# Altium integrated library Altera MAX 7000B.IntLib: 128 symbols (part 1 of 9)
Pins are listed as number, name and electrical type; pins without a type are passive.

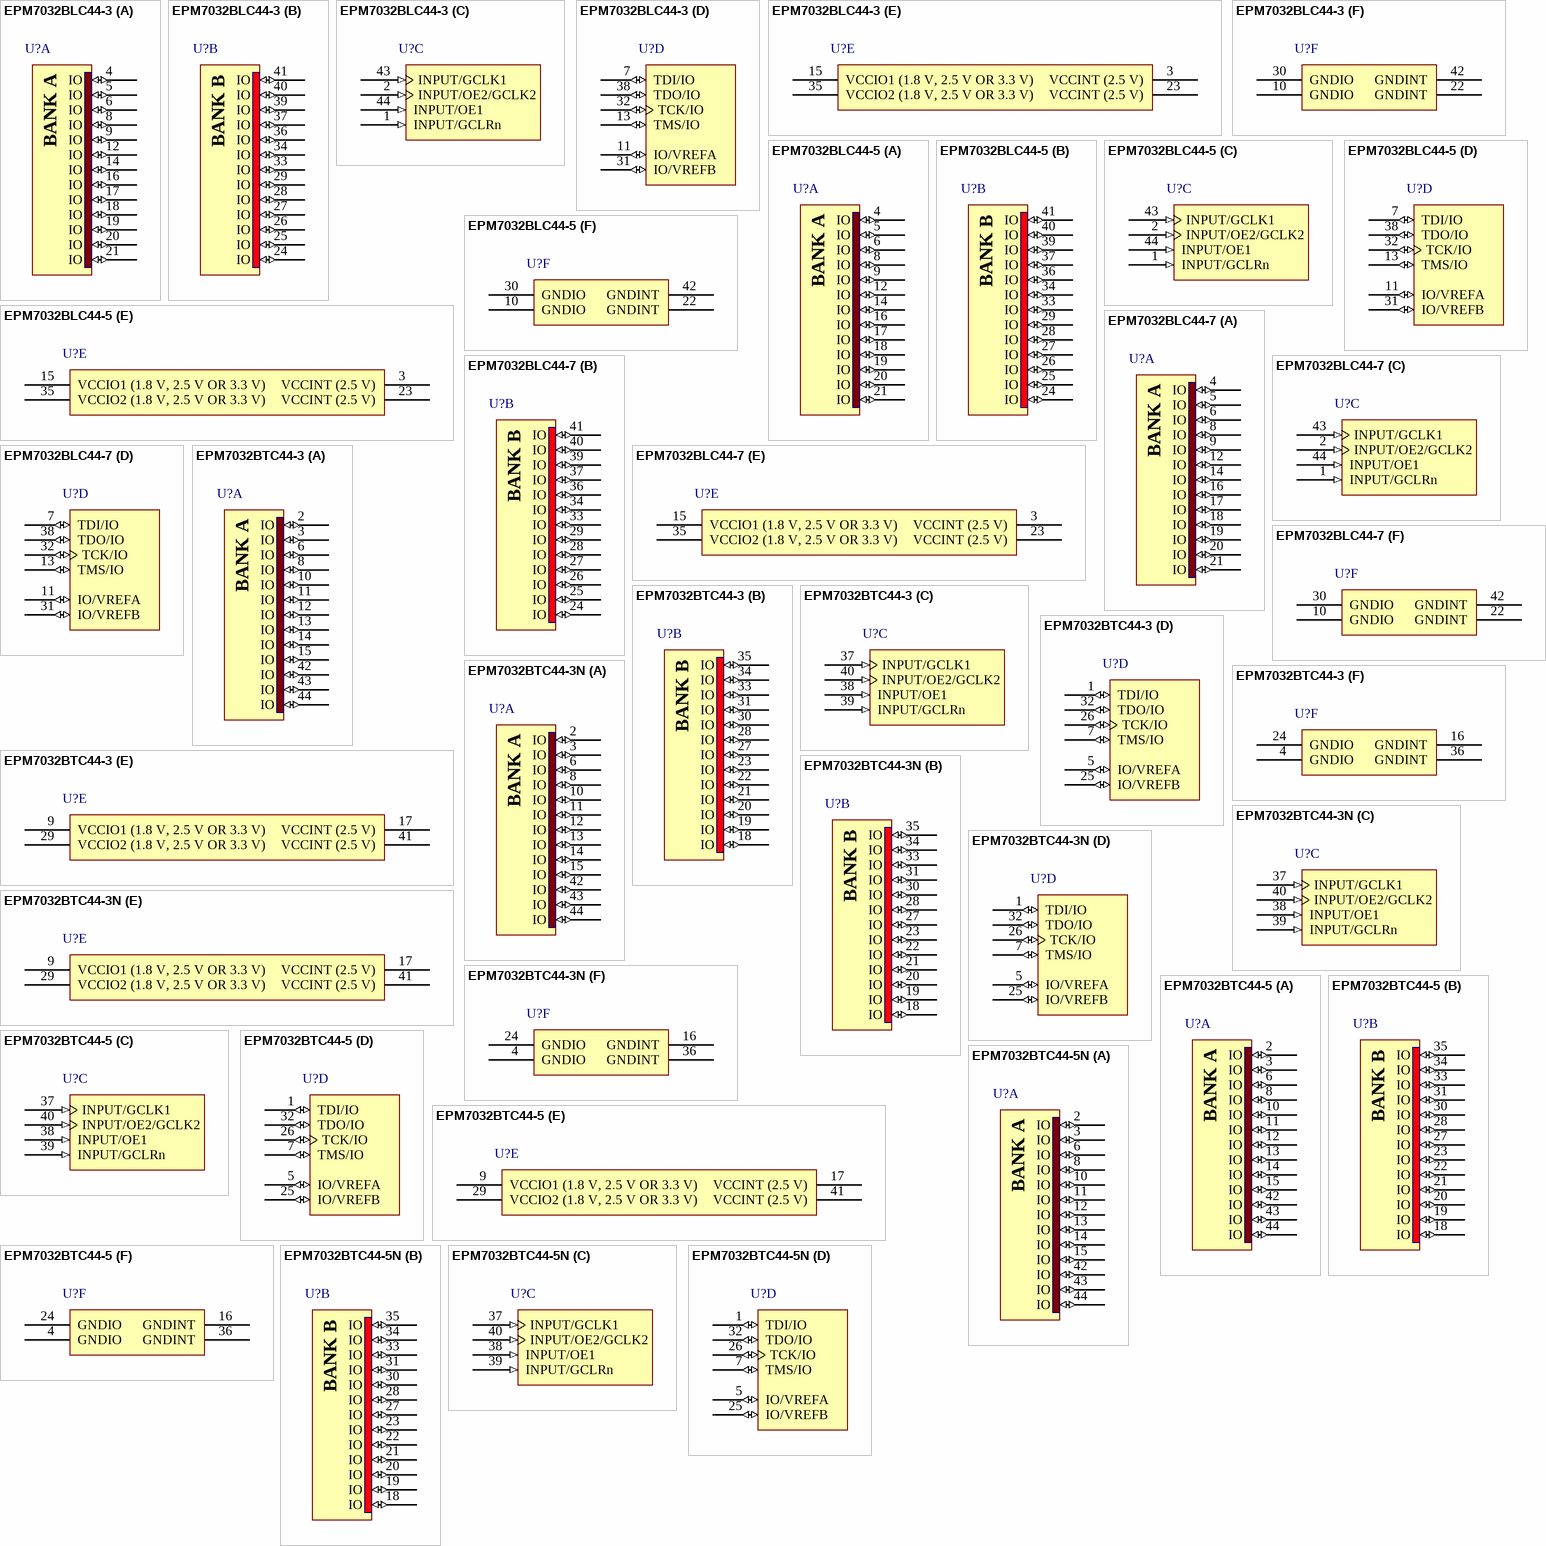
[diagram p0: symbols EPM7032BLC44-3 to EPM7032BTC44-5N]

## EPM7032BLC44-3
designator U?
Max 7000B 2.5V CPLD, 32 Macrocells, 44-Pin PLCC, Speed Grade 3, Commercial Grade; Published: 17-Sep-2003; LatestRevisionDate: 13-Apr-2006; LatestRevisionNote: IPC-7351 Footprint Added.; DatasheetVersion: ver3.5, Sep-2005; PackageVersion: ver14.3, Jul-2006; PackageReference: PLCC44; Publisher: Altium Limited; PackageDescription: 44-Pin Plastic J-Lead Chip Carrier (PLCC44); Code_JEDEC: MS-018-AC; Code_IPC: PLCC-44; ComponentLink1Description: Manufacturer Link; ComponentLink1URL: http://www.altera.com/products/devices/max7k/m7k-index.html; ComponentLink2Description: Datasheet; ComponentLink2URL: http://www.altera.com/literature/ds/m7000b.pdf; ComponentLink3Description: Packaging Specification; ComponentLink3URL: http://www.altera.com/literature/ds/dspkg.pdf
footprint PLCC44_N (Leaded Chip Carrier, 44-Leads, Body 16.6x16.6mm, Pitch 1.27mm, IPC Medium Density)
footprint PLCC44_L (Leaded Chip Carrier, 44-Leads, Body 16.6x16.6mm, Pitch 1.27mm, IPC High Density)
footprint PLCC44_M (Leaded Chip Carrier, 44-Leads, Body 16.6x16.6mm, Pitch 1.27mm, IPC Low Density)
3D model EPM7032B-PLCC44 (44-Pin Plastic J-Lead Chip Carrier (PLCC44))
signal-integrity model 7kb (MAX 7000B)
part A pins: 4 IO (io), 5 IO (io), 6 IO (io), 8 IO (io), 9 IO (io), 12 IO (io), 14 IO (io), 16 IO (io), 17 IO (io), 18 IO (io), 19 IO (io), 20 IO (io), 21 IO (io)
part B pins: 24 IO (io), 25 IO (io), 26 IO (io), 27 IO (io), 28 IO (io), 29 IO (io), 33 IO (io), 34 IO (io), 36 IO (io), 37 IO (io), 39 IO (io), 40 IO (io), 41 IO (io)
part C pins: 1 INPUT/GCLRn (in), 2 INPUT/OE2/GCLK2 (in), 43 INPUT/GCLK1 (in), 44 INPUT/OE1 (in)
part D pins: 7 TDI/IO (io), 11 IO/VREFA (io), 13 TMS/IO (io), 31 IO/VREFB (io), 32 TCK/IO (io), 38 TDO/IO (io)
part E pins: 3 VCCINT (2.5 V) (power), 15 VCCIO1 (1.8 V, 2.5 V OR 3.3 V) (power), 23 VCCINT (2.5 V) (power), 35 VCCIO2 (1.8 V, 2.5 V OR 3.3 V) (power)
part F pins: 10 GNDIO (power), 22 GNDINT (power), 30 GNDIO (power), 42 GNDINT (power)
part A text: BANK A
part B text: BANK B

## EPM7032BLC44-5
designator U?
Max 7000B 2.5V CPLD, 32 Macrocells, 44-Pin PLCC, Speed Grade 5, Commercial Grade; Published: 17-Sep-2003; LatestRevisionDate: 13-Apr-2006; LatestRevisionNote: IPC-7351 Footprint Added.; DatasheetVersion: ver3.5, Sep-2005; PackageVersion: ver14.3, Jul-2006; PackageReference: PLCC44; Publisher: Altium Limited; PackageDescription: 44-Pin Plastic J-Lead Chip Carrier (PLCC44); Code_JEDEC: MS-018-AC; Code_IPC: PLCC-44; ComponentLink1Description: Manufacturer Link; ComponentLink1URL: http://www.altera.com/products/devices/max7k/m7k-index.html; ComponentLink2Description: Datasheet; ComponentLink2URL: http://www.altera.com/literature/ds/m7000b.pdf; ComponentLink3Description: Packaging Specification; ComponentLink3URL: http://www.altera.com/literature/ds/dspkg.pdf
footprint PLCC44_N (Leaded Chip Carrier, 44-Leads, Body 16.6x16.6mm, Pitch 1.27mm, IPC Medium Density)
footprint PLCC44_L (Leaded Chip Carrier, 44-Leads, Body 16.6x16.6mm, Pitch 1.27mm, IPC High Density)
footprint PLCC44_M (Leaded Chip Carrier, 44-Leads, Body 16.6x16.6mm, Pitch 1.27mm, IPC Low Density)
3D model EPM7032B-PLCC44 (44-Pin Plastic J-Lead Chip Carrier (PLCC44))
signal-integrity model 7kb (MAX 7000B)
part A pins: 4 IO (io), 5 IO (io), 6 IO (io), 8 IO (io), 9 IO (io), 12 IO (io), 14 IO (io), 16 IO (io), 17 IO (io), 18 IO (io), 19 IO (io), 20 IO (io), 21 IO (io)
part B pins: 24 IO (io), 25 IO (io), 26 IO (io), 27 IO (io), 28 IO (io), 29 IO (io), 33 IO (io), 34 IO (io), 36 IO (io), 37 IO (io), 39 IO (io), 40 IO (io), 41 IO (io)
part C pins: 1 INPUT/GCLRn (in), 2 INPUT/OE2/GCLK2 (in), 43 INPUT/GCLK1 (in), 44 INPUT/OE1 (in)
part D pins: 7 TDI/IO (io), 11 IO/VREFA (io), 13 TMS/IO (io), 31 IO/VREFB (io), 32 TCK/IO (io), 38 TDO/IO (io)
part E pins: 3 VCCINT (2.5 V) (power), 15 VCCIO1 (1.8 V, 2.5 V OR 3.3 V) (power), 23 VCCINT (2.5 V) (power), 35 VCCIO2 (1.8 V, 2.5 V OR 3.3 V) (power)
part F pins: 10 GNDIO (power), 22 GNDINT (power), 30 GNDIO (power), 42 GNDINT (power)
part A text: BANK A
part B text: BANK B

## EPM7032BLC44-7
designator U?
Max 7000B 2.5V CPLD, 32 Macrocells, 44-Pin PLCC, Speed Grade 7, Commercial Grade; Published: 17-Sep-2003; LatestRevisionDate: 13-Apr-2006; LatestRevisionNote: IPC-7351 Footprint Added.; DatasheetVersion: ver3.5, Sep-2005; PackageVersion: ver14.3, Jul-2006; PackageReference: PLCC44; Publisher: Altium Limited; PackageDescription: 44-Pin Plastic J-Lead Chip Carrier (PLCC44); Code_JEDEC: MS-018-AC; Code_IPC: PLCC-44; ComponentLink1Description: Manufacturer Link; ComponentLink1URL: http://www.altera.com/products/devices/max7k/m7k-index.html; ComponentLink2Description: Datasheet; ComponentLink2URL: http://www.altera.com/literature/ds/m7000b.pdf; ComponentLink3Description: Packaging Specification; ComponentLink3URL: http://www.altera.com/literature/ds/dspkg.pdf
footprint PLCC44_N (Leaded Chip Carrier, 44-Leads, Body 16.6x16.6mm, Pitch 1.27mm, IPC Medium Density)
footprint PLCC44_L (Leaded Chip Carrier, 44-Leads, Body 16.6x16.6mm, Pitch 1.27mm, IPC High Density)
footprint PLCC44_M (Leaded Chip Carrier, 44-Leads, Body 16.6x16.6mm, Pitch 1.27mm, IPC Low Density)
3D model EPM7032B-PLCC44 (44-Pin Plastic J-Lead Chip Carrier (PLCC44))
signal-integrity model 7kb (MAX 7000B)
part A pins: 4 IO (io), 5 IO (io), 6 IO (io), 8 IO (io), 9 IO (io), 12 IO (io), 14 IO (io), 16 IO (io), 17 IO (io), 18 IO (io), 19 IO (io), 20 IO (io), 21 IO (io)
part B pins: 24 IO (io), 25 IO (io), 26 IO (io), 27 IO (io), 28 IO (io), 29 IO (io), 33 IO (io), 34 IO (io), 36 IO (io), 37 IO (io), 39 IO (io), 40 IO (io), 41 IO (io)
part C pins: 1 INPUT/GCLRn (in), 2 INPUT/OE2/GCLK2 (in), 43 INPUT/GCLK1 (in), 44 INPUT/OE1 (in)
part D pins: 7 TDI/IO (io), 11 IO/VREFA (io), 13 TMS/IO (io), 31 IO/VREFB (io), 32 TCK/IO (io), 38 TDO/IO (io)
part E pins: 3 VCCINT (2.5 V) (power), 15 VCCIO1 (1.8 V, 2.5 V OR 3.3 V) (power), 23 VCCINT (2.5 V) (power), 35 VCCIO2 (1.8 V, 2.5 V OR 3.3 V) (power)
part F pins: 10 GNDIO (power), 22 GNDINT (power), 30 GNDIO (power), 42 GNDINT (power)
part A text: BANK A
part B text: BANK B

## EPM7032BTC44-3
designator U?
Max 7000B 2.5V CPLD, 32 Macrocells, 44-Pin TQFP, Speed Grade 3, Commercial Grade; Published: 17-Sep-2003; LatestRevisionDate: 13-Apr-2006; LatestRevisionNote: IPC-7351 Footprint Added.; DatasheetVersion: ver3.5, Sep-2005; PackageVersion: ver14.3, Jul-2006; PackageReference: TQFP44; Publisher: Altium Limited; PackageDescription: 44-Pin Plastic Thin Quad Flat Pack (TFQP44); Code_JEDEC: MS-026-ACB; ComponentLink1Description: Manufacturer Link; ComponentLink1URL: http://www.altera.com/products/devices/max7k/m7k-index.html; ComponentLink2Description: Datasheet; ComponentLink2URL: http://www.altera.com/literature/ds/m7000b.pdf; ComponentLink3Description: Packaging Specification; ComponentLink3URL: http://www.altera.com/literature/ds/dspkg.pdf
footprint TQFP44_N (Thin QFP, 44-Leads, Body 10x10mm, Pitch 0.8mm, IPC Medium Density)
footprint TQFP44_L (Thin QFP, 44-Leads, Body 10x10mm, Pitch 0.8mm, IPC High Density)
footprint TQFP44_M (Thin QFP, 44-Leads, Body 10x10mm, Pitch 0.8mm, IPC Low Density)
3D model EPM7032B-TQFP44 (44-Pin Plastic Thin Quad Flat Pack (TFQP44))
signal-integrity model 7kb (MAX 7000B)
part A pins: 2 IO (io), 3 IO (io), 6 IO (io), 8 IO (io), 10 IO (io), 11 IO (io), 12 IO (io), 13 IO (io), 14 IO (io), 15 IO (io), 42 IO (io), 43 IO (io), 44 IO (io)
part B pins: 18 IO (io), 19 IO (io), 20 IO (io), 21 IO (io), 22 IO (io), 23 IO (io), 27 IO (io), 28 IO (io), 30 IO (io), 31 IO (io), 33 IO (io), 34 IO (io), 35 IO (io)
part C pins: 37 INPUT/GCLK1 (in), 38 INPUT/OE1 (in), 39 INPUT/GCLRn (in), 40 INPUT/OE2/GCLK2 (in)
part D pins: 1 TDI/IO (io), 5 IO/VREFA (io), 7 TMS/IO (io), 25 IO/VREFB (io), 26 TCK/IO (io), 32 TDO/IO (io)
part E pins: 9 VCCIO1 (1.8 V, 2.5 V OR 3.3 V) (power), 17 VCCINT (2.5 V) (power), 29 VCCIO2 (1.8 V, 2.5 V OR 3.3 V) (power), 41 VCCINT (2.5 V) (power)
part F pins: 4 GNDIO (power), 16 GNDINT (power), 24 GNDIO (power), 36 GNDINT (power)
part A text: BANK A
part B text: BANK B

## EPM7032BTC44-3N
designator U?
Max 7000B 2.5V CPLD, 32 Macrocells, 44-Pin TQFP, Speed Grade 3, Commercial Grade, Pb-Free; Published: 13-Apr-2006; DatasheetVersion: ver3.5, Sep-2005; PackageVersion: ver14.3, Jul-2006; PackageReference: TQFP44; Publisher: Altium Limited; PackageDescription: 44-Pin Plastic Thin Quad Flat Pack (TFQP44); Code_JEDEC: MS-026-ACB; ComponentLink1Description: Manufacturer Link; ComponentLink1URL: http://www.altera.com/products/devices/max7k/m7k-index.html; ComponentLink2Description: Datasheet; ComponentLink2URL: http://www.altera.com/literature/ds/m7000b.pdf; ComponentLink3Description: Packaging Specification; ComponentLink3URL: http://www.altera.com/literature/ds/dspkg.pdf
footprint TQFP44_N (Thin QFP, 44-Leads, Body 10x10mm, Pitch 0.8mm, IPC Medium Density)
footprint TQFP44_L (Thin QFP, 44-Leads, Body 10x10mm, Pitch 0.8mm, IPC High Density)
footprint TQFP44_M (Thin QFP, 44-Leads, Body 10x10mm, Pitch 0.8mm, IPC Low Density)
3D model EPM7032B-TQFP44 (44-Pin Plastic Thin Quad Flat Pack (TFQP44))
signal-integrity model 7kb (MAX 7000B)
part A pins: 2 IO (io), 3 IO (io), 6 IO (io), 8 IO (io), 10 IO (io), 11 IO (io), 12 IO (io), 13 IO (io), 14 IO (io), 15 IO (io), 42 IO (io), 43 IO (io), 44 IO (io)
part B pins: 18 IO (io), 19 IO (io), 20 IO (io), 21 IO (io), 22 IO (io), 23 IO (io), 27 IO (io), 28 IO (io), 30 IO (io), 31 IO (io), 33 IO (io), 34 IO (io), 35 IO (io)
part C pins: 37 INPUT/GCLK1 (in), 38 INPUT/OE1 (in), 39 INPUT/GCLRn (in), 40 INPUT/OE2/GCLK2 (in)
part D pins: 1 TDI/IO (io), 5 IO/VREFA (io), 7 TMS/IO (io), 25 IO/VREFB (io), 26 TCK/IO (io), 32 TDO/IO (io)
part E pins: 9 VCCIO1 (1.8 V, 2.5 V OR 3.3 V) (power), 17 VCCINT (2.5 V) (power), 29 VCCIO2 (1.8 V, 2.5 V OR 3.3 V) (power), 41 VCCINT (2.5 V) (power)
part F pins: 4 GNDIO (power), 16 GNDINT (power), 24 GNDIO (power), 36 GNDINT (power)
part A text: BANK A
part B text: BANK B

## EPM7032BTC44-5
designator U?
Max 7000B 2.5V CPLD, 32 Macrocells, 44-Pin TQFP, Speed Grade 5, Commercial Grade; Published: 17-Sep-2003; LatestRevisionDate: 13-Apr-2006; LatestRevisionNote: IPC-7351 Footprint Added.; DatasheetVersion: ver3.5, Sep-2005; PackageVersion: ver14.3, Jul-2006; PackageReference: TQFP44; Publisher: Altium Limited; PackageDescription: 44-Pin Plastic Thin Quad Flat Pack (TFQP44); Code_JEDEC: MS-026-ACB; ComponentLink1Description: Manufacturer Link; ComponentLink1URL: http://www.altera.com/products/devices/max7k/m7k-index.html; ComponentLink2Description: Datasheet; ComponentLink2URL: http://www.altera.com/literature/ds/m7000b.pdf; ComponentLink3Description: Packaging Specification; ComponentLink3URL: http://www.altera.com/literature/ds/dspkg.pdf
footprint TQFP44_N (Thin QFP, 44-Leads, Body 10x10mm, Pitch 0.8mm, IPC Medium Density)
footprint TQFP44_L (Thin QFP, 44-Leads, Body 10x10mm, Pitch 0.8mm, IPC High Density)
footprint TQFP44_M (Thin QFP, 44-Leads, Body 10x10mm, Pitch 0.8mm, IPC Low Density)
3D model EPM7032B-TQFP44 (44-Pin Plastic Thin Quad Flat Pack (TFQP44))
signal-integrity model 7kb (MAX 7000B)
part A pins: 2 IO (io), 3 IO (io), 6 IO (io), 8 IO (io), 10 IO (io), 11 IO (io), 12 IO (io), 13 IO (io), 14 IO (io), 15 IO (io), 42 IO (io), 43 IO (io), 44 IO (io)
part B pins: 18 IO (io), 19 IO (io), 20 IO (io), 21 IO (io), 22 IO (io), 23 IO (io), 27 IO (io), 28 IO (io), 30 IO (io), 31 IO (io), 33 IO (io), 34 IO (io), 35 IO (io)
part C pins: 37 INPUT/GCLK1 (in), 38 INPUT/OE1 (in), 39 INPUT/GCLRn (in), 40 INPUT/OE2/GCLK2 (in)
part D pins: 1 TDI/IO (io), 5 IO/VREFA (io), 7 TMS/IO (io), 25 IO/VREFB (io), 26 TCK/IO (io), 32 TDO/IO (io)
part E pins: 9 VCCIO1 (1.8 V, 2.5 V OR 3.3 V) (power), 17 VCCINT (2.5 V) (power), 29 VCCIO2 (1.8 V, 2.5 V OR 3.3 V) (power), 41 VCCINT (2.5 V) (power)
part F pins: 4 GNDIO (power), 16 GNDINT (power), 24 GNDIO (power), 36 GNDINT (power)
part A text: BANK A
part B text: BANK B

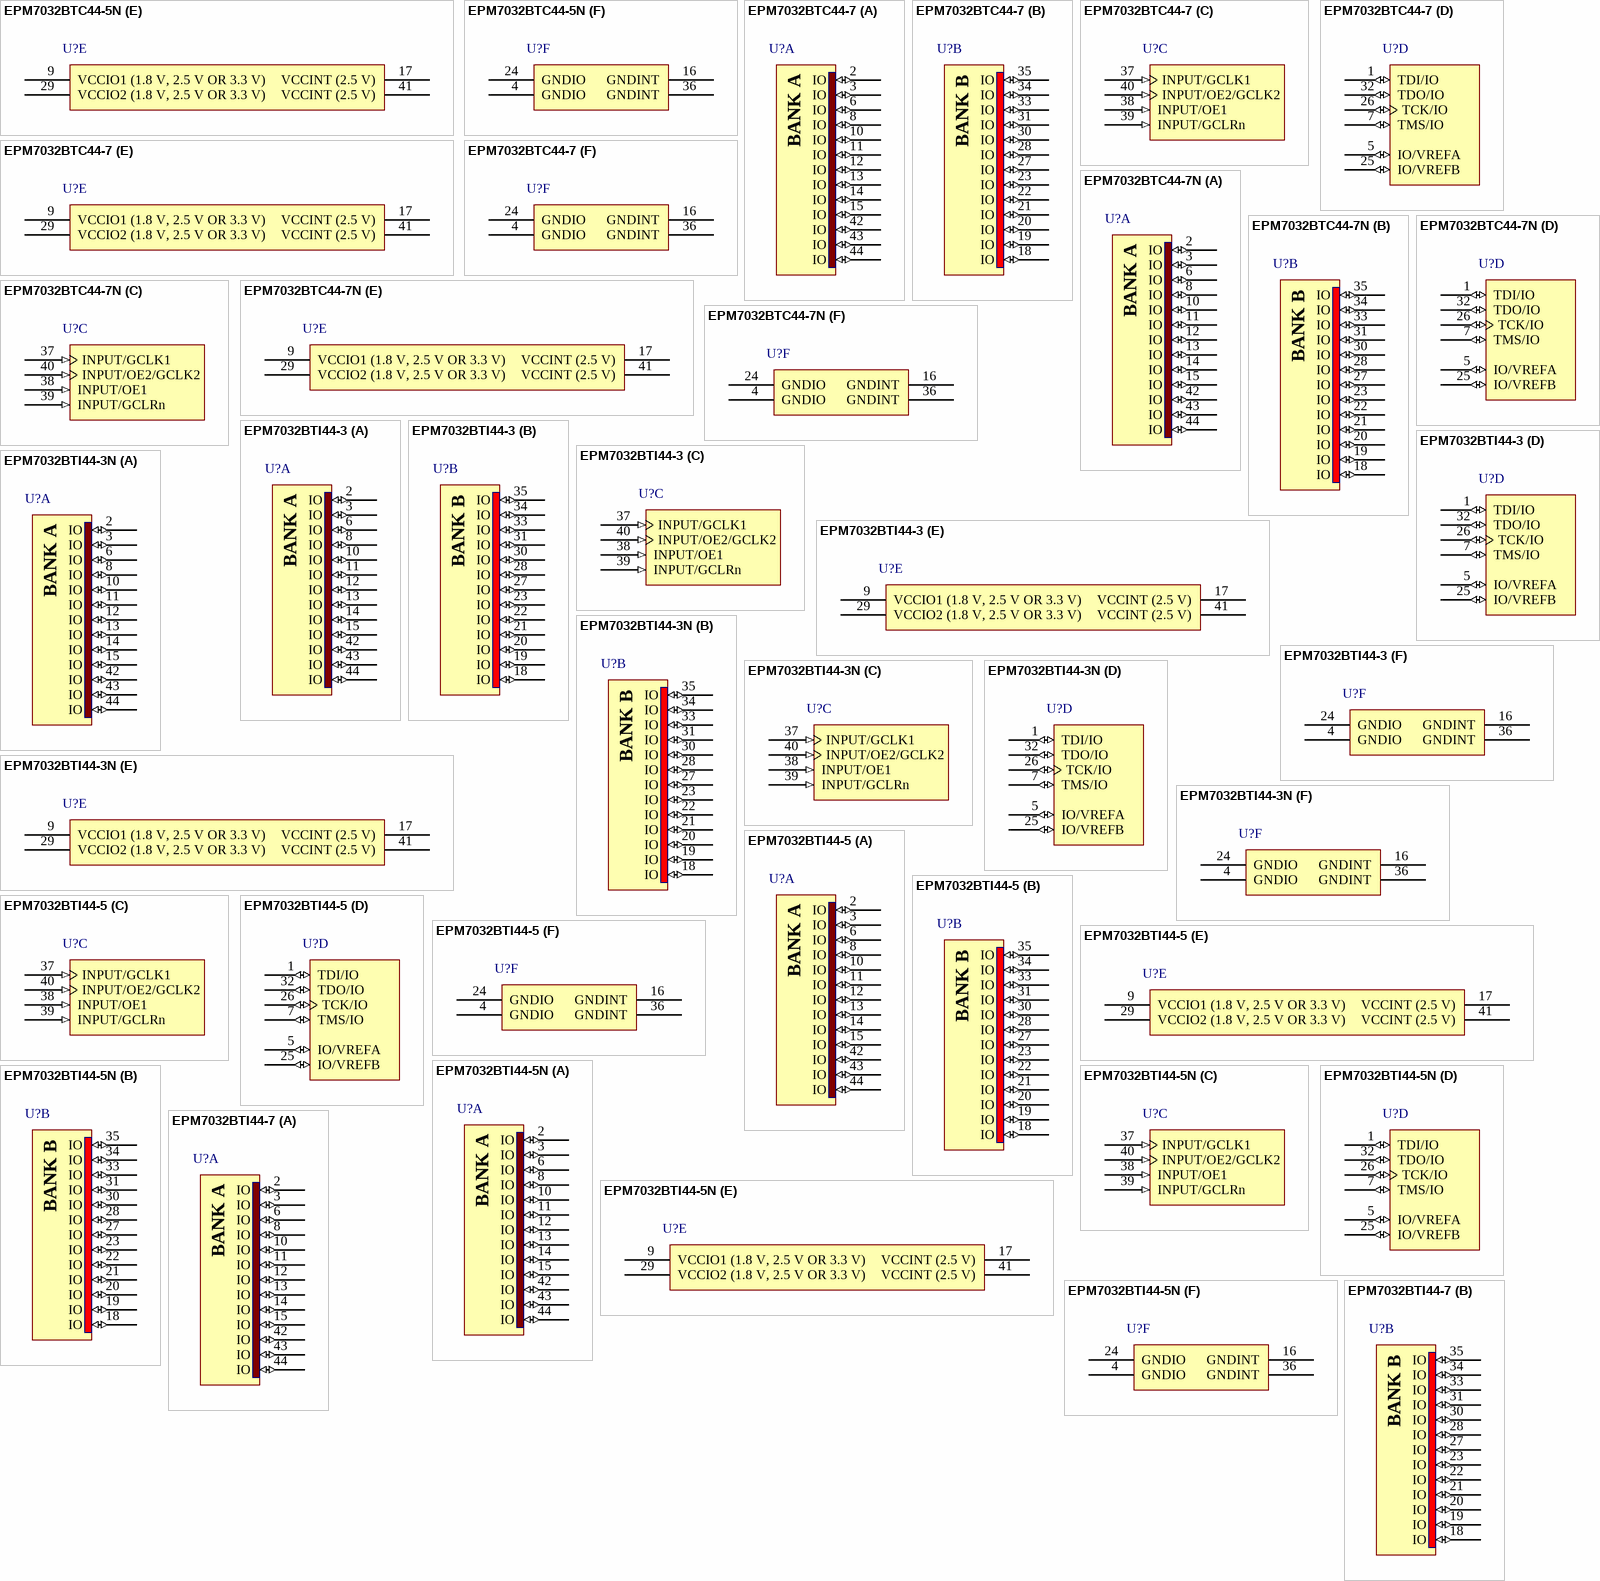
[diagram p1: symbols EPM7032BTC44-5N to EPM7032BTI44-7]

## EPM7032BTC44-5N
designator U?
Max 7000B 2.5V CPLD, 32 Macrocells, 44-Pin TQFP, Speed Grade 5, Commercial Grade, Pb-Free; Published: 13-Apr-2006; DatasheetVersion: ver3.5, Sep-2005; PackageVersion: ver14.3, Jul-2006; PackageReference: TQFP44; Publisher: Altium Limited; PackageDescription: 44-Pin Plastic Thin Quad Flat Pack (TFQP44); Code_JEDEC: MS-026-ACB; ComponentLink1Description: Manufacturer Link; ComponentLink1URL: http://www.altera.com/products/devices/max7k/m7k-index.html; ComponentLink2Description: Datasheet; ComponentLink2URL: http://www.altera.com/literature/ds/m7000b.pdf; ComponentLink3Description: Packaging Specification; ComponentLink3URL: http://www.altera.com/literature/ds/dspkg.pdf
footprint TQFP44_N (Thin QFP, 44-Leads, Body 10x10mm, Pitch 0.8mm, IPC Medium Density)
footprint TQFP44_L (Thin QFP, 44-Leads, Body 10x10mm, Pitch 0.8mm, IPC High Density)
footprint TQFP44_M (Thin QFP, 44-Leads, Body 10x10mm, Pitch 0.8mm, IPC Low Density)
3D model EPM7032B-TQFP44 (44-Pin Plastic Thin Quad Flat Pack (TFQP44))
signal-integrity model 7kb (MAX 7000B)
part A pins: 2 IO (io), 3 IO (io), 6 IO (io), 8 IO (io), 10 IO (io), 11 IO (io), 12 IO (io), 13 IO (io), 14 IO (io), 15 IO (io), 42 IO (io), 43 IO (io), 44 IO (io)
part B pins: 18 IO (io), 19 IO (io), 20 IO (io), 21 IO (io), 22 IO (io), 23 IO (io), 27 IO (io), 28 IO (io), 30 IO (io), 31 IO (io), 33 IO (io), 34 IO (io), 35 IO (io)
part C pins: 37 INPUT/GCLK1 (in), 38 INPUT/OE1 (in), 39 INPUT/GCLRn (in), 40 INPUT/OE2/GCLK2 (in)
part D pins: 1 TDI/IO (io), 5 IO/VREFA (io), 7 TMS/IO (io), 25 IO/VREFB (io), 26 TCK/IO (io), 32 TDO/IO (io)
part E pins: 9 VCCIO1 (1.8 V, 2.5 V OR 3.3 V) (power), 17 VCCINT (2.5 V) (power), 29 VCCIO2 (1.8 V, 2.5 V OR 3.3 V) (power), 41 VCCINT (2.5 V) (power)
part F pins: 4 GNDIO (power), 16 GNDINT (power), 24 GNDIO (power), 36 GNDINT (power)
part A text: BANK A
part B text: BANK B

## EPM7032BTC44-7
designator U?
Max 7000B 2.5V CPLD, 32 Macrocells, 44-Pin TQFP, Speed Grade 7, Commercial Grade; Published: 17-Sep-2003; LatestRevisionDate: 13-Apr-2006; LatestRevisionNote: IPC-7351 Footprint Added.; DatasheetVersion: ver3.5, Sep-2005; PackageVersion: ver14.3, Jul-2006; PackageReference: TQFP44; Publisher: Altium Limited; PackageDescription: 44-Pin Plastic Thin Quad Flat Pack (TFQP44); Code_JEDEC: MS-026-ACB; ComponentLink1Description: Manufacturer Link; ComponentLink1URL: http://www.altera.com/products/devices/max7k/m7k-index.html; ComponentLink2Description: Datasheet; ComponentLink2URL: http://www.altera.com/literature/ds/m7000b.pdf; ComponentLink3Description: Packaging Specification; ComponentLink3URL: http://www.altera.com/literature/ds/dspkg.pdf
footprint TQFP44_N (Thin QFP, 44-Leads, Body 10x10mm, Pitch 0.8mm, IPC Medium Density)
footprint TQFP44_L (Thin QFP, 44-Leads, Body 10x10mm, Pitch 0.8mm, IPC High Density)
footprint TQFP44_M (Thin QFP, 44-Leads, Body 10x10mm, Pitch 0.8mm, IPC Low Density)
3D model EPM7032B-TQFP44 (44-Pin Plastic Thin Quad Flat Pack (TFQP44))
signal-integrity model 7kb (MAX 7000B)
part A pins: 2 IO (io), 3 IO (io), 6 IO (io), 8 IO (io), 10 IO (io), 11 IO (io), 12 IO (io), 13 IO (io), 14 IO (io), 15 IO (io), 42 IO (io), 43 IO (io), 44 IO (io)
part B pins: 18 IO (io), 19 IO (io), 20 IO (io), 21 IO (io), 22 IO (io), 23 IO (io), 27 IO (io), 28 IO (io), 30 IO (io), 31 IO (io), 33 IO (io), 34 IO (io), 35 IO (io)
part C pins: 37 INPUT/GCLK1 (in), 38 INPUT/OE1 (in), 39 INPUT/GCLRn (in), 40 INPUT/OE2/GCLK2 (in)
part D pins: 1 TDI/IO (io), 5 IO/VREFA (io), 7 TMS/IO (io), 25 IO/VREFB (io), 26 TCK/IO (io), 32 TDO/IO (io)
part E pins: 9 VCCIO1 (1.8 V, 2.5 V OR 3.3 V) (power), 17 VCCINT (2.5 V) (power), 29 VCCIO2 (1.8 V, 2.5 V OR 3.3 V) (power), 41 VCCINT (2.5 V) (power)
part F pins: 4 GNDIO (power), 16 GNDINT (power), 24 GNDIO (power), 36 GNDINT (power)
part A text: BANK A
part B text: BANK B

## EPM7032BTC44-7N
designator U?
Max 7000B 2.5V CPLD, 32 Macrocells, 44-Pin TQFP, Speed Grade 7, Commercial Grade, Pb-Free; Published: 13-Apr-2006; DatasheetVersion: ver3.5, Sep-2005; PackageVersion: ver14.3, Jul-2006; PackageReference: TQFP44; Publisher: Altium Limited; PackageDescription: 44-Pin Plastic Thin Quad Flat Pack (TFQP44); Code_JEDEC: MS-026-ACB; ComponentLink1Description: Manufacturer Link; ComponentLink1URL: http://www.altera.com/products/devices/max7k/m7k-index.html; ComponentLink2Description: Datasheet; ComponentLink2URL: http://www.altera.com/literature/ds/m7000b.pdf; ComponentLink3Description: Packaging Specification; ComponentLink3URL: http://www.altera.com/literature/ds/dspkg.pdf
footprint TQFP44_N (Thin QFP, 44-Leads, Body 10x10mm, Pitch 0.8mm, IPC Medium Density)
footprint TQFP44_L (Thin QFP, 44-Leads, Body 10x10mm, Pitch 0.8mm, IPC High Density)
footprint TQFP44_M (Thin QFP, 44-Leads, Body 10x10mm, Pitch 0.8mm, IPC Low Density)
3D model EPM7032B-TQFP44 (44-Pin Plastic Thin Quad Flat Pack (TFQP44))
signal-integrity model 7kb (MAX 7000B)
part A pins: 2 IO (io), 3 IO (io), 6 IO (io), 8 IO (io), 10 IO (io), 11 IO (io), 12 IO (io), 13 IO (io), 14 IO (io), 15 IO (io), 42 IO (io), 43 IO (io), 44 IO (io)
part B pins: 18 IO (io), 19 IO (io), 20 IO (io), 21 IO (io), 22 IO (io), 23 IO (io), 27 IO (io), 28 IO (io), 30 IO (io), 31 IO (io), 33 IO (io), 34 IO (io), 35 IO (io)
part C pins: 37 INPUT/GCLK1 (in), 38 INPUT/OE1 (in), 39 INPUT/GCLRn (in), 40 INPUT/OE2/GCLK2 (in)
part D pins: 1 TDI/IO (io), 5 IO/VREFA (io), 7 TMS/IO (io), 25 IO/VREFB (io), 26 TCK/IO (io), 32 TDO/IO (io)
part E pins: 9 VCCIO1 (1.8 V, 2.5 V OR 3.3 V) (power), 17 VCCINT (2.5 V) (power), 29 VCCIO2 (1.8 V, 2.5 V OR 3.3 V) (power), 41 VCCINT (2.5 V) (power)
part F pins: 4 GNDIO (power), 16 GNDINT (power), 24 GNDIO (power), 36 GNDINT (power)
part A text: BANK A
part B text: BANK B

## EPM7032BTI44-3
designator U?
Max 7000B 2.5V CPLD, 32 Macrocells, 44-Pin TQFP, Speed Grade 3, Industrial Grade; Published: 17-Sep-2003; LatestRevisionDate: 13-Apr-2006; LatestRevisionNote: IPC-7351 Footprint Added.; DatasheetVersion: ver3.5, Sep-2005; PackageVersion: ver14.3, Jul-2006; PackageReference: TQFP44; Publisher: Altium Limited; PackageDescription: 44-Pin Plastic Thin Quad Flat Pack (TFQP44); Code_JEDEC: MS-026-ACB; ComponentLink1Description: Manufacturer Link; ComponentLink1URL: http://www.altera.com/products/devices/max7k/m7k-index.html; ComponentLink2Description: Datasheet; ComponentLink2URL: http://www.altera.com/literature/ds/m7000b.pdf; ComponentLink3Description: Packaging Specification; ComponentLink3URL: http://www.altera.com/literature/ds/dspkg.pdf
footprint TQFP44_N (Thin QFP, 44-Leads, Body 10x10mm, Pitch 0.8mm, IPC Medium Density)
footprint TQFP44_L (Thin QFP, 44-Leads, Body 10x10mm, Pitch 0.8mm, IPC High Density)
footprint TQFP44_M (Thin QFP, 44-Leads, Body 10x10mm, Pitch 0.8mm, IPC Low Density)
3D model EPM7032B-TQFP44 (44-Pin Plastic Thin Quad Flat Pack (TFQP44))
signal-integrity model 7kb (MAX 7000B)
part A pins: 2 IO (io), 3 IO (io), 6 IO (io), 8 IO (io), 10 IO (io), 11 IO (io), 12 IO (io), 13 IO (io), 14 IO (io), 15 IO (io), 42 IO (io), 43 IO (io), 44 IO (io)
part B pins: 18 IO (io), 19 IO (io), 20 IO (io), 21 IO (io), 22 IO (io), 23 IO (io), 27 IO (io), 28 IO (io), 30 IO (io), 31 IO (io), 33 IO (io), 34 IO (io), 35 IO (io)
part C pins: 37 INPUT/GCLK1 (in), 38 INPUT/OE1 (in), 39 INPUT/GCLRn (in), 40 INPUT/OE2/GCLK2 (in)
part D pins: 1 TDI/IO (io), 5 IO/VREFA (io), 7 TMS/IO (io), 25 IO/VREFB (io), 26 TCK/IO (io), 32 TDO/IO (io)
part E pins: 9 VCCIO1 (1.8 V, 2.5 V OR 3.3 V) (power), 17 VCCINT (2.5 V) (power), 29 VCCIO2 (1.8 V, 2.5 V OR 3.3 V) (power), 41 VCCINT (2.5 V) (power)
part F pins: 4 GNDIO (power), 16 GNDINT (power), 24 GNDIO (power), 36 GNDINT (power)
part A text: BANK A
part B text: BANK B

## EPM7032BTI44-3N
designator U?
Max 7000B 2.5V CPLD, 32 Macrocells, 44-Pin TQFP, Speed Grade 3, Industrial Grade, Pb-Free; Published: 13-Apr-2006; DatasheetVersion: ver3.5, Sep-2005; PackageVersion: ver14.3, Jul-2006; PackageReference: TQFP44; Publisher: Altium Limited; PackageDescription: 44-Pin Plastic Thin Quad Flat Pack (TFQP44); Code_JEDEC: MS-026-ACB; ComponentLink1Description: Manufacturer Link; ComponentLink1URL: http://www.altera.com/products/devices/max7k/m7k-index.html; ComponentLink2Description: Datasheet; ComponentLink2URL: http://www.altera.com/literature/ds/m7000b.pdf; ComponentLink3Description: Packaging Specification; ComponentLink3URL: http://www.altera.com/literature/ds/dspkg.pdf
footprint TQFP44_N (Thin QFP, 44-Leads, Body 10x10mm, Pitch 0.8mm, IPC Medium Density)
footprint TQFP44_L (Thin QFP, 44-Leads, Body 10x10mm, Pitch 0.8mm, IPC High Density)
footprint TQFP44_M (Thin QFP, 44-Leads, Body 10x10mm, Pitch 0.8mm, IPC Low Density)
3D model EPM7032B-TQFP44 (44-Pin Plastic Thin Quad Flat Pack (TFQP44))
signal-integrity model 7kb (MAX 7000B)
part A pins: 2 IO (io), 3 IO (io), 6 IO (io), 8 IO (io), 10 IO (io), 11 IO (io), 12 IO (io), 13 IO (io), 14 IO (io), 15 IO (io), 42 IO (io), 43 IO (io), 44 IO (io)
part B pins: 18 IO (io), 19 IO (io), 20 IO (io), 21 IO (io), 22 IO (io), 23 IO (io), 27 IO (io), 28 IO (io), 30 IO (io), 31 IO (io), 33 IO (io), 34 IO (io), 35 IO (io)
part C pins: 37 INPUT/GCLK1 (in), 38 INPUT/OE1 (in), 39 INPUT/GCLRn (in), 40 INPUT/OE2/GCLK2 (in)
part D pins: 1 TDI/IO (io), 5 IO/VREFA (io), 7 TMS/IO (io), 25 IO/VREFB (io), 26 TCK/IO (io), 32 TDO/IO (io)
part E pins: 9 VCCIO1 (1.8 V, 2.5 V OR 3.3 V) (power), 17 VCCINT (2.5 V) (power), 29 VCCIO2 (1.8 V, 2.5 V OR 3.3 V) (power), 41 VCCINT (2.5 V) (power)
part F pins: 4 GNDIO (power), 16 GNDINT (power), 24 GNDIO (power), 36 GNDINT (power)
part A text: BANK A
part B text: BANK B

## EPM7032BTI44-5
designator U?
Max 7000B 2.5V CPLD, 32 Macrocells, 44-Pin TQFP, Speed Grade 5, Industrial Grade; Published: 17-Sep-2003; LatestRevisionDate: 13-Apr-2006; LatestRevisionNote: IPC-7351 Footprint Added.; DatasheetVersion: ver3.5, Sep-2005; PackageVersion: ver14.3, Jul-2006; PackageReference: TQFP44; Publisher: Altium Limited; PackageDescription: 44-Pin Plastic Thin Quad Flat Pack (TFQP44); Code_JEDEC: MS-026-ACB; ComponentLink1Description: Manufacturer Link; ComponentLink1URL: http://www.altera.com/products/devices/max7k/m7k-index.html; ComponentLink2Description: Datasheet; ComponentLink2URL: http://www.altera.com/literature/ds/m7000b.pdf; ComponentLink3Description: Packaging Specification; ComponentLink3URL: http://www.altera.com/literature/ds/dspkg.pdf
footprint TQFP44_N (Thin QFP, 44-Leads, Body 10x10mm, Pitch 0.8mm, IPC Medium Density)
footprint TQFP44_L (Thin QFP, 44-Leads, Body 10x10mm, Pitch 0.8mm, IPC High Density)
footprint TQFP44_M (Thin QFP, 44-Leads, Body 10x10mm, Pitch 0.8mm, IPC Low Density)
3D model EPM7032B-TQFP44 (44-Pin Plastic Thin Quad Flat Pack (TFQP44))
signal-integrity model 7kb (MAX 7000B)
part A pins: 2 IO (io), 3 IO (io), 6 IO (io), 8 IO (io), 10 IO (io), 11 IO (io), 12 IO (io), 13 IO (io), 14 IO (io), 15 IO (io), 42 IO (io), 43 IO (io), 44 IO (io)
part B pins: 18 IO (io), 19 IO (io), 20 IO (io), 21 IO (io), 22 IO (io), 23 IO (io), 27 IO (io), 28 IO (io), 30 IO (io), 31 IO (io), 33 IO (io), 34 IO (io), 35 IO (io)
part C pins: 37 INPUT/GCLK1 (in), 38 INPUT/OE1 (in), 39 INPUT/GCLRn (in), 40 INPUT/OE2/GCLK2 (in)
part D pins: 1 TDI/IO (io), 5 IO/VREFA (io), 7 TMS/IO (io), 25 IO/VREFB (io), 26 TCK/IO (io), 32 TDO/IO (io)
part E pins: 9 VCCIO1 (1.8 V, 2.5 V OR 3.3 V) (power), 17 VCCINT (2.5 V) (power), 29 VCCIO2 (1.8 V, 2.5 V OR 3.3 V) (power), 41 VCCINT (2.5 V) (power)
part F pins: 4 GNDIO (power), 16 GNDINT (power), 24 GNDIO (power), 36 GNDINT (power)
part A text: BANK A
part B text: BANK B

## EPM7032BTI44-5N
designator U?
Max 7000B 2.5V CPLD, 32 Macrocells, 44-Pin TQFP, Speed Grade 5, Industrial Grade, Pb-Free; Published: 13-Apr-2006; DatasheetVersion: ver3.5, Sep-2005; PackageVersion: ver14.3, Jul-2006; PackageReference: TQFP44; Publisher: Altium Limited; PackageDescription: 44-Pin Plastic Thin Quad Flat Pack (TFQP44); Code_JEDEC: MS-026-ACB; ComponentLink1Description: Manufacturer Link; ComponentLink1URL: http://www.altera.com/products/devices/max7k/m7k-index.html; ComponentLink2Description: Datasheet; ComponentLink2URL: http://www.altera.com/literature/ds/m7000b.pdf; ComponentLink3Description: Packaging Specification; ComponentLink3URL: http://www.altera.com/literature/ds/dspkg.pdf
footprint TQFP44_N (Thin QFP, 44-Leads, Body 10x10mm, Pitch 0.8mm, IPC Medium Density)
footprint TQFP44_L (Thin QFP, 44-Leads, Body 10x10mm, Pitch 0.8mm, IPC High Density)
footprint TQFP44_M (Thin QFP, 44-Leads, Body 10x10mm, Pitch 0.8mm, IPC Low Density)
3D model EPM7032B-TQFP44 (44-Pin Plastic Thin Quad Flat Pack (TFQP44))
signal-integrity model 7kb (MAX 7000B)
part A pins: 2 IO (io), 3 IO (io), 6 IO (io), 8 IO (io), 10 IO (io), 11 IO (io), 12 IO (io), 13 IO (io), 14 IO (io), 15 IO (io), 42 IO (io), 43 IO (io), 44 IO (io)
part B pins: 18 IO (io), 19 IO (io), 20 IO (io), 21 IO (io), 22 IO (io), 23 IO (io), 27 IO (io), 28 IO (io), 30 IO (io), 31 IO (io), 33 IO (io), 34 IO (io), 35 IO (io)
part C pins: 37 INPUT/GCLK1 (in), 38 INPUT/OE1 (in), 39 INPUT/GCLRn (in), 40 INPUT/OE2/GCLK2 (in)
part D pins: 1 TDI/IO (io), 5 IO/VREFA (io), 7 TMS/IO (io), 25 IO/VREFB (io), 26 TCK/IO (io), 32 TDO/IO (io)
part E pins: 9 VCCIO1 (1.8 V, 2.5 V OR 3.3 V) (power), 17 VCCINT (2.5 V) (power), 29 VCCIO2 (1.8 V, 2.5 V OR 3.3 V) (power), 41 VCCINT (2.5 V) (power)
part F pins: 4 GNDIO (power), 16 GNDINT (power), 24 GNDIO (power), 36 GNDINT (power)
part A text: BANK A
part B text: BANK B

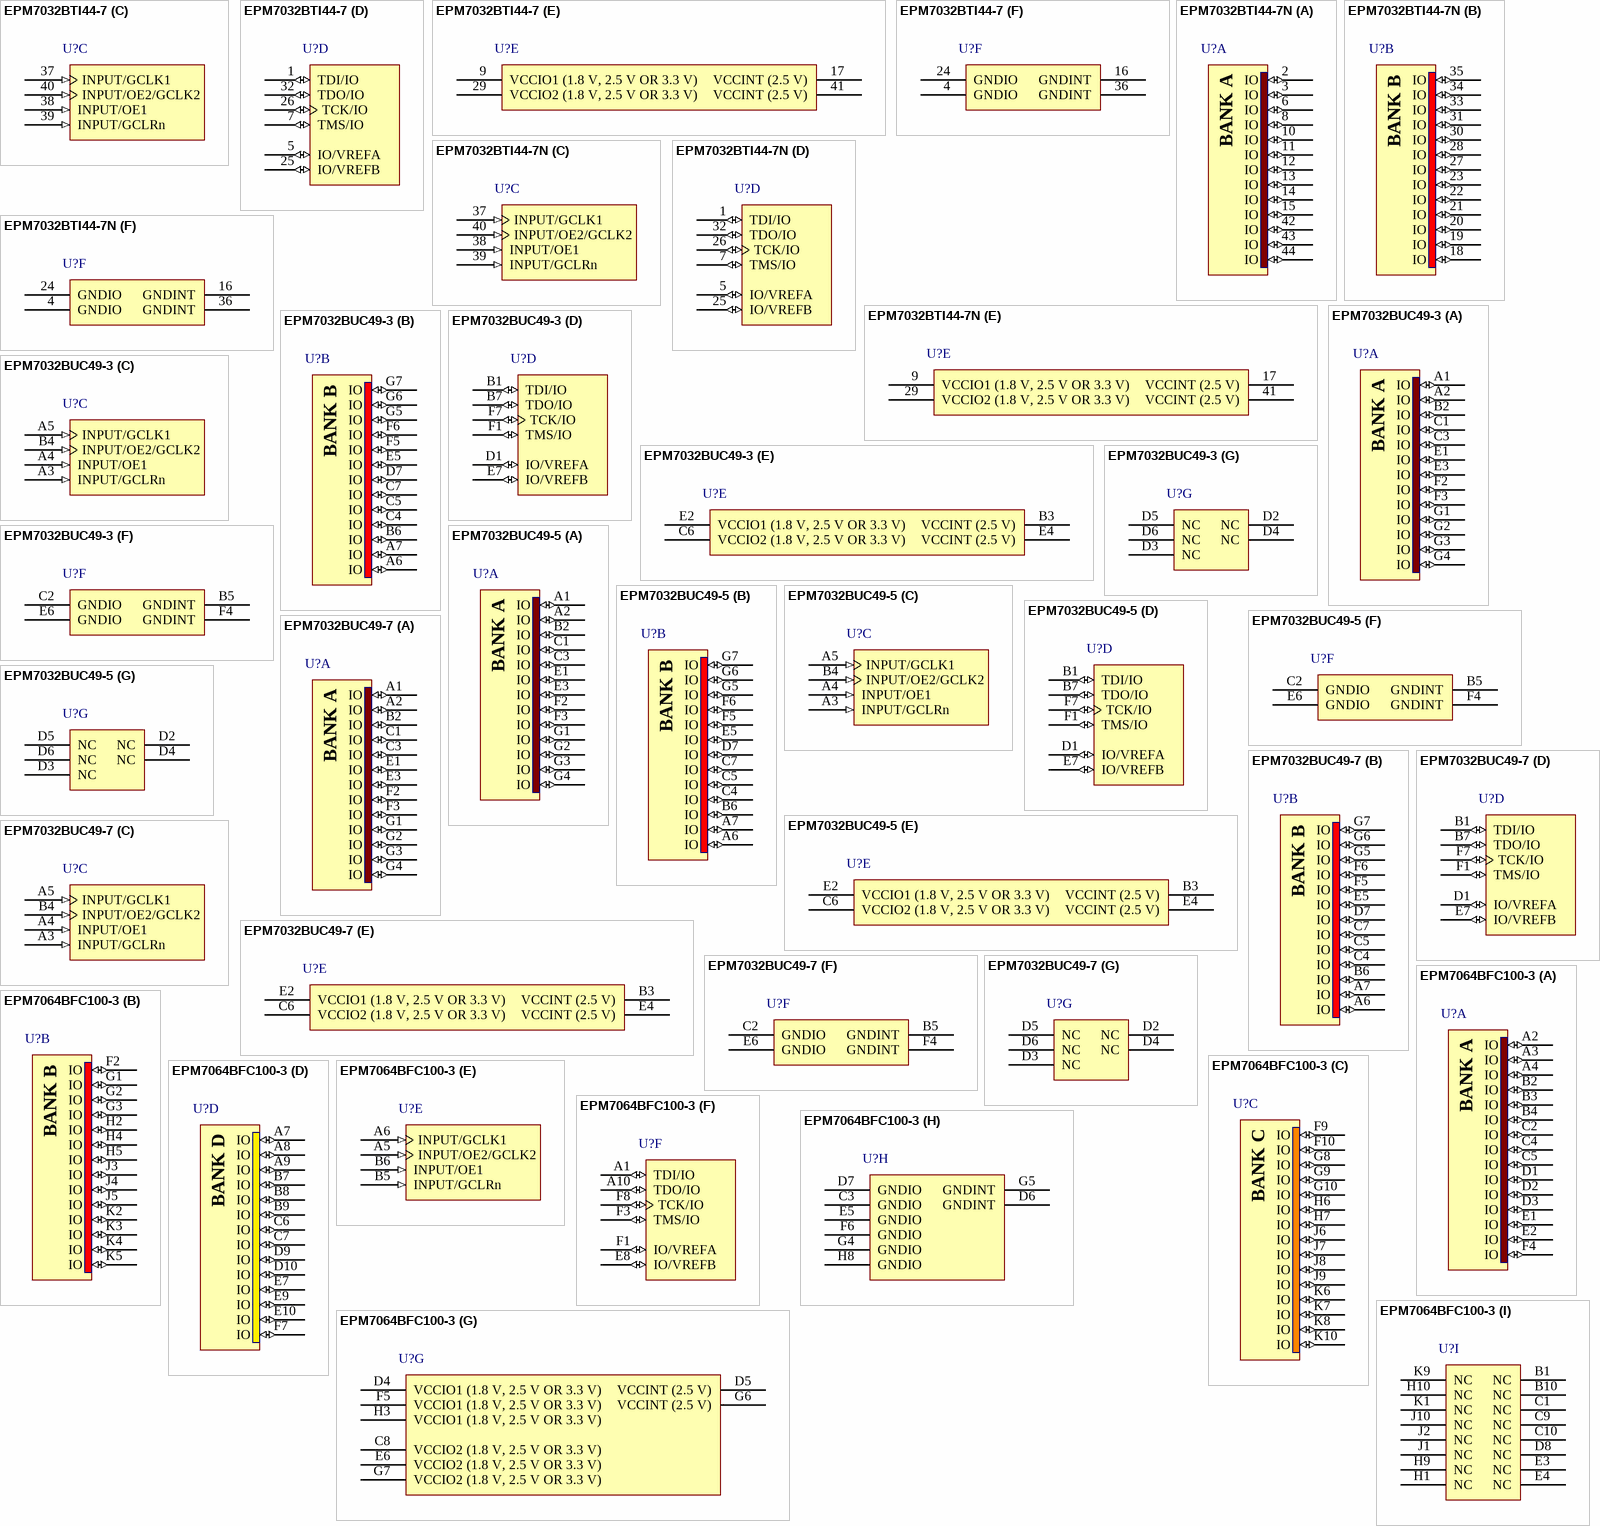
[diagram p2: symbols EPM7032BTI44-7 to EPM7064BFC100-3]

## EPM7032BTI44-7
designator U?
Max 7000B 2.5V CPLD, 32 Macrocells, 44-Pin TQFP, Speed Grade 7, Industrial Grade; Published: 17-Sep-2003; LatestRevisionDate: 13-Apr-2006; LatestRevisionNote: IPC-7351 Footprint Added.; DatasheetVersion: ver3.5, Sep-2005; PackageVersion: ver14.3, Jul-2006; PackageReference: TQFP44; Publisher: Altium Limited; PackageDescription: 44-Pin Plastic Thin Quad Flat Pack (TFQP44); Code_JEDEC: MS-026-ACB; ComponentLink1Description: Manufacturer Link; ComponentLink1URL: http://www.altera.com/products/devices/max7k/m7k-index.html; ComponentLink2Description: Datasheet; ComponentLink2URL: http://www.altera.com/literature/ds/m7000b.pdf; ComponentLink3Description: Packaging Specification; ComponentLink3URL: http://www.altera.com/literature/ds/dspkg.pdf
footprint TQFP44_N (Thin QFP, 44-Leads, Body 10x10mm, Pitch 0.8mm, IPC Medium Density)
footprint TQFP44_L (Thin QFP, 44-Leads, Body 10x10mm, Pitch 0.8mm, IPC High Density)
footprint TQFP44_M (Thin QFP, 44-Leads, Body 10x10mm, Pitch 0.8mm, IPC Low Density)
3D model EPM7032B-TQFP44 (44-Pin Plastic Thin Quad Flat Pack (TFQP44))
signal-integrity model 7kb (MAX 7000B)
part A pins: 2 IO (io), 3 IO (io), 6 IO (io), 8 IO (io), 10 IO (io), 11 IO (io), 12 IO (io), 13 IO (io), 14 IO (io), 15 IO (io), 42 IO (io), 43 IO (io), 44 IO (io)
part B pins: 18 IO (io), 19 IO (io), 20 IO (io), 21 IO (io), 22 IO (io), 23 IO (io), 27 IO (io), 28 IO (io), 30 IO (io), 31 IO (io), 33 IO (io), 34 IO (io), 35 IO (io)
part C pins: 37 INPUT/GCLK1 (in), 38 INPUT/OE1 (in), 39 INPUT/GCLRn (in), 40 INPUT/OE2/GCLK2 (in)
part D pins: 1 TDI/IO (io), 5 IO/VREFA (io), 7 TMS/IO (io), 25 IO/VREFB (io), 26 TCK/IO (io), 32 TDO/IO (io)
part E pins: 9 VCCIO1 (1.8 V, 2.5 V OR 3.3 V) (power), 17 VCCINT (2.5 V) (power), 29 VCCIO2 (1.8 V, 2.5 V OR 3.3 V) (power), 41 VCCINT (2.5 V) (power)
part F pins: 4 GNDIO (power), 16 GNDINT (power), 24 GNDIO (power), 36 GNDINT (power)
part A text: BANK A
part B text: BANK B

## EPM7032BTI44-7N
designator U?
Max 7000B 2.5V CPLD, 32 Macrocells, 44-Pin TQFP, Speed Grade 7, Industrial Grade, Pb-Free; Published: 13-Apr-2006; DatasheetVersion: ver3.5, Sep-2005; PackageVersion: ver14.3, Jul-2006; PackageReference: TQFP44; Publisher: Altium Limited; PackageDescription: 44-Pin Plastic Thin Quad Flat Pack (TFQP44); Code_JEDEC: MS-026-ACB; ComponentLink1Description: Manufacturer Link; ComponentLink1URL: http://www.altera.com/products/devices/max7k/m7k-index.html; ComponentLink2Description: Datasheet; ComponentLink2URL: http://www.altera.com/literature/ds/m7000b.pdf; ComponentLink3Description: Packaging Specification; ComponentLink3URL: http://www.altera.com/literature/ds/dspkg.pdf
footprint TQFP44_N (Thin QFP, 44-Leads, Body 10x10mm, Pitch 0.8mm, IPC Medium Density)
footprint TQFP44_L (Thin QFP, 44-Leads, Body 10x10mm, Pitch 0.8mm, IPC High Density)
footprint TQFP44_M (Thin QFP, 44-Leads, Body 10x10mm, Pitch 0.8mm, IPC Low Density)
3D model EPM7032B-TQFP44 (44-Pin Plastic Thin Quad Flat Pack (TFQP44))
signal-integrity model 7kb (MAX 7000B)
part A pins: 2 IO (io), 3 IO (io), 6 IO (io), 8 IO (io), 10 IO (io), 11 IO (io), 12 IO (io), 13 IO (io), 14 IO (io), 15 IO (io), 42 IO (io), 43 IO (io), 44 IO (io)
part B pins: 18 IO (io), 19 IO (io), 20 IO (io), 21 IO (io), 22 IO (io), 23 IO (io), 27 IO (io), 28 IO (io), 30 IO (io), 31 IO (io), 33 IO (io), 34 IO (io), 35 IO (io)
part C pins: 37 INPUT/GCLK1 (in), 38 INPUT/OE1 (in), 39 INPUT/GCLRn (in), 40 INPUT/OE2/GCLK2 (in)
part D pins: 1 TDI/IO (io), 5 IO/VREFA (io), 7 TMS/IO (io), 25 IO/VREFB (io), 26 TCK/IO (io), 32 TDO/IO (io)
part E pins: 9 VCCIO1 (1.8 V, 2.5 V OR 3.3 V) (power), 17 VCCINT (2.5 V) (power), 29 VCCIO2 (1.8 V, 2.5 V OR 3.3 V) (power), 41 VCCINT (2.5 V) (power)
part F pins: 4 GNDIO (power), 16 GNDINT (power), 24 GNDIO (power), 36 GNDINT (power)
part A text: BANK A
part B text: BANK B

## EPM7032BUC49-3
designator U?
Max 7000B 2.5V CPLD, 32 Macrocells, 49-Pin UFBGA, Speed Grade 3, Commercial Grade; Published: 17-Sep-2003; LatestRevisionDate: 13-Apr-2006; LatestRevisionNote: IPC-7351 Footprint Added.; DatasheetVersion: ver3.5, Sep-2005; PackageVersion: ver14.3, Jul-2006; PackageReference: UBGA49; Publisher: Altium Limited; PackageDescription: 49-Ball Ultra FineLine Ball Grid Array (UBGA49); Code_JEDEC: MO-216-BAB-2; ComponentLink1Description: Manufacturer Link; ComponentLink1URL: http://www.altera.com/products/devices/max7k/m7k-index.html; ComponentLink2Description: Datasheet; ComponentLink2URL: http://www.altera.com/literature/ds/m7000b.pdf; ComponentLink3Description: Packaging Specification; ComponentLink3URL: http://www.altera.com/literature/ds/dspkg.pdf
footprint UBGA49 (BGA, 49-Leads, Body 7x7mm, Pitch 0.8mm)
3D model EPM7032B-UBGA49 (49-Ball Ultra FineLine Ball Grid Array (UBGA49))
signal-integrity model 7kb (MAX 7000B)
part A pins: A1 IO (io), A2 IO (io), B2 IO (io), C1 IO (io), C3 IO (io), E1 IO (io), E3 IO (io), F2 IO (io), F3 IO (io), G1 IO (io), G2 IO (io), G3 IO (io), G4 IO (io)
part B pins: A6 IO (io), A7 IO (io), B6 IO (io), C4 IO (io), C5 IO (io), C7 IO (io), D7 IO (io), E5 IO (io), F5 IO (io), F6 IO (io), G5 IO (io), G6 IO (io), G7 IO (io)
part C pins: A3 INPUT/GCLRn (in), A4 INPUT/OE1 (in), A5 INPUT/GCLK1 (in), B4 INPUT/OE2/GCLK2 (in)
part D pins: B1 TDI/IO (io), B7 TDO/IO (io), D1 IO/VREFA (io), E7 IO/VREFB (io), F1 TMS/IO (io), F7 TCK/IO (io)
part E pins: B3 VCCINT (2.5 V) (power), C6 VCCIO2 (1.8 V, 2.5 V OR 3.3 V) (power), E2 VCCIO1 (1.8 V, 2.5 V OR 3.3 V) (power), E4 VCCINT (2.5 V) (power)
part F pins: B5 GNDINT (power), C2 GNDIO (power), E6 GNDIO (power), F4 GNDINT (power)
part G pins: D2 NC, D3 NC, D4 NC, D5 NC, D6 NC
part A text: BANK A
part B text: BANK B

## EPM7032BUC49-5
designator U?
Max 7000B 2.5V CPLD, 32 Macrocells, 49-Pin UFBGA, Speed Grade 5, Commercial Grade; Published: 17-Sep-2003; LatestRevisionDate: 13-Apr-2006; LatestRevisionNote: IPC-7351 Footprint Added.; DatasheetVersion: ver3.5, Sep-2005; PackageVersion: ver14.3, Jul-2006; PackageReference: UBGA49; Publisher: Altium Limited; PackageDescription: 49-Ball Ultra FineLine Ball Grid Array (UBGA49); Code_JEDEC: MO-216-BAB-2; ComponentLink1Description: Manufacturer Link; ComponentLink1URL: http://www.altera.com/products/devices/max7k/m7k-index.html; ComponentLink2Description: Datasheet; ComponentLink2URL: http://www.altera.com/literature/ds/m7000b.pdf; ComponentLink3Description: Packaging Specification; ComponentLink3URL: http://www.altera.com/literature/ds/dspkg.pdf
footprint UBGA49 (BGA, 49-Leads, Body 7x7mm, Pitch 0.8mm)
3D model EPM7032B-UBGA49 (49-Ball Ultra FineLine Ball Grid Array (UBGA49))
signal-integrity model 7kb (MAX 7000B)
part A pins: A1 IO (io), A2 IO (io), B2 IO (io), C1 IO (io), C3 IO (io), E1 IO (io), E3 IO (io), F2 IO (io), F3 IO (io), G1 IO (io), G2 IO (io), G3 IO (io), G4 IO (io)
part B pins: A6 IO (io), A7 IO (io), B6 IO (io), C4 IO (io), C5 IO (io), C7 IO (io), D7 IO (io), E5 IO (io), F5 IO (io), F6 IO (io), G5 IO (io), G6 IO (io), G7 IO (io)
part C pins: A3 INPUT/GCLRn (in), A4 INPUT/OE1 (in), A5 INPUT/GCLK1 (in), B4 INPUT/OE2/GCLK2 (in)
part D pins: B1 TDI/IO (io), B7 TDO/IO (io), D1 IO/VREFA (io), E7 IO/VREFB (io), F1 TMS/IO (io), F7 TCK/IO (io)
part E pins: B3 VCCINT (2.5 V) (power), C6 VCCIO2 (1.8 V, 2.5 V OR 3.3 V) (power), E2 VCCIO1 (1.8 V, 2.5 V OR 3.3 V) (power), E4 VCCINT (2.5 V) (power)
part F pins: B5 GNDINT (power), C2 GNDIO (power), E6 GNDIO (power), F4 GNDINT (power)
part G pins: D2 NC, D3 NC, D4 NC, D5 NC, D6 NC
part A text: BANK A
part B text: BANK B

## EPM7032BUC49-7
designator U?
Max 7000B 2.5V CPLD, 32 Macrocells, 49-Pin UFBGA, Speed Grade 7, Commercial Grade; Published: 17-Sep-2003; LatestRevisionDate: 13-Apr-2006; LatestRevisionNote: IPC-7351 Footprint Added.; DatasheetVersion: ver3.5, Sep-2005; PackageVersion: ver14.3, Jul-2006; PackageReference: UBGA49; Publisher: Altium Limited; PackageDescription: 49-Ball Ultra FineLine Ball Grid Array (UBGA49); Code_JEDEC: MO-216-BAB-2; ComponentLink1Description: Manufacturer Link; ComponentLink1URL: http://www.altera.com/products/devices/max7k/m7k-index.html; ComponentLink2Description: Datasheet; ComponentLink2URL: http://www.altera.com/literature/ds/m7000b.pdf; ComponentLink3Description: Packaging Specification; ComponentLink3URL: http://www.altera.com/literature/ds/dspkg.pdf
footprint UBGA49 (BGA, 49-Leads, Body 7x7mm, Pitch 0.8mm)
3D model EPM7032B-UBGA49 (49-Ball Ultra FineLine Ball Grid Array (UBGA49))
signal-integrity model 7kb (MAX 7000B)
part A pins: A1 IO (io), A2 IO (io), B2 IO (io), C1 IO (io), C3 IO (io), E1 IO (io), E3 IO (io), F2 IO (io), F3 IO (io), G1 IO (io), G2 IO (io), G3 IO (io), G4 IO (io)
part B pins: A6 IO (io), A7 IO (io), B6 IO (io), C4 IO (io), C5 IO (io), C7 IO (io), D7 IO (io), E5 IO (io), F5 IO (io), F6 IO (io), G5 IO (io), G6 IO (io), G7 IO (io)
part C pins: A3 INPUT/GCLRn (in), A4 INPUT/OE1 (in), A5 INPUT/GCLK1 (in), B4 INPUT/OE2/GCLK2 (in)
part D pins: B1 TDI/IO (io), B7 TDO/IO (io), D1 IO/VREFA (io), E7 IO/VREFB (io), F1 TMS/IO (io), F7 TCK/IO (io)
part E pins: B3 VCCINT (2.5 V) (power), C6 VCCIO2 (1.8 V, 2.5 V OR 3.3 V) (power), E2 VCCIO1 (1.8 V, 2.5 V OR 3.3 V) (power), E4 VCCINT (2.5 V) (power)
part F pins: B5 GNDINT (power), C2 GNDIO (power), E6 GNDIO (power), F4 GNDINT (power)
part G pins: D2 NC, D3 NC, D4 NC, D5 NC, D6 NC
part A text: BANK A
part B text: BANK B

## EPM7064BFC100-3
designator U?
Max 7000B 2.5V CPLD, 64 Macrocells, 100-Pin FBGA, Speed Grade 3, Commercial Grade; Published: 23-Sep-2002; LatestRevisionDate: 13-Apr-2006; LatestRevisionNote: IPC-7351 Footprint Added.; DatasheetVersion: ver3.5, Sep-2005; PackageVersion: ver14.3, Jul-2006; PackageReference: FBGA100; Publisher: Altium Limited; PackageDescription: 100-Ball FineLine Ball Grid Array (FBGA100); Code_JEDEC: MO-192-AAC-1; Code_IPC: BGA100P10X10-100; ComponentLink1Description: Manufacturer Link; ComponentLink1URL: http://www.altera.com/products/devices/max7k/m7k-index.html; ComponentLink2Description: Datasheet; ComponentLink2URL: http://www.altera.com/literature/ds/m7000b.pdf; ComponentLink3Description: Packaging Specification; ComponentLink3URL: http://www.altera.com/literature/ds/dspkg.pdf
footprint FBGA100 (BGA, 100-Leads, Body 11x11mm, Pitch 1mm)
3D model EPM7064B-FBGA100 (100-Ball FineLine Ball Grid Array (FBGA100))
signal-integrity model 7kb (MAX 7000B)
part A pins: A2 IO (io), A3 IO (io), A4 IO (io), B2 IO (io), B3 IO (io), B4 IO (io), C2 IO (io), C4 IO (io), C5 IO (io), D1 IO (io), D2 IO (io), D3 IO (io), E1 IO (io), E2 IO (io), F4 IO (io)
part B pins: F2 IO (io), G1 IO (io), G2 IO (io), G3 IO (io), H2 IO (io), H4 IO (io), H5 IO (io), J3 IO (io), J4 IO (io), J5 IO (io), K2 IO (io), K3 IO (io), K4 IO (io), K5 IO (io)
part C pins: F9 IO (io), F10 IO (io), G8 IO (io), G9 IO (io), G10 IO (io), H6 IO (io), H7 IO (io), J6 IO (io), J7 IO (io), J8 IO (io), J9 IO (io), K6 IO (io), K7 IO (io), K8 IO (io), K10 IO (io)
part D pins: A7 IO (io), A8 IO (io), A9 IO (io), B7 IO (io), B8 IO (io), B9 IO (io), C6 IO (io), C7 IO (io), D9 IO (io), D10 IO (io), E7 IO (io), E9 IO (io), E10 IO (io), F7 IO (io)
part E pins: A5 INPUT/OE2/GCLK2 (in), A6 INPUT/GCLK1 (in), B5 INPUT/GCLRn (in), B6 INPUT/OE1 (in)
part F pins: A1 TDI/IO (io), A10 TDO/IO (io), E8 IO/VREFB (io), F1 IO/VREFA (io), F3 TMS/IO (io), F8 TCK/IO (io)
part G pins: C8 VCCIO2 (1.8 V, 2.5 V OR 3.3 V) (power), D4 VCCIO1 (1.8 V, 2.5 V OR 3.3 V) (power), D5 VCCINT (2.5 V) (power), E6 VCCIO2 (1.8 V, 2.5 V OR 3.3 V) (power), F5 VCCIO1 (1.8 V, 2.5 V OR 3.3 V) (power), G6 VCCINT (2.5 V) (power), G7 VCCIO2 (1.8 V, 2.5 V OR 3.3 V) (power), H3 VCCIO1 (1.8 V, 2.5 V OR 3.3 V) (power)
part H pins: C3 GNDIO (power), D6 GNDINT (power), D7 GNDIO (power), E5 GNDIO (power), F6 GNDIO (power), G4 GNDIO (power), G5 GNDINT (power), H8 GNDIO (power)
part I pins: B1 NC, B10 NC, C1 NC, C9 NC, C10 NC, D8 NC, E3 NC, E4 NC, H1 NC, H9 NC, H10 NC, J1 NC, J2 NC, J10 NC, K1 NC, K9 NC
part A text: BANK A
part B text: BANK B
part C text: BANK C
part D text: BANK D

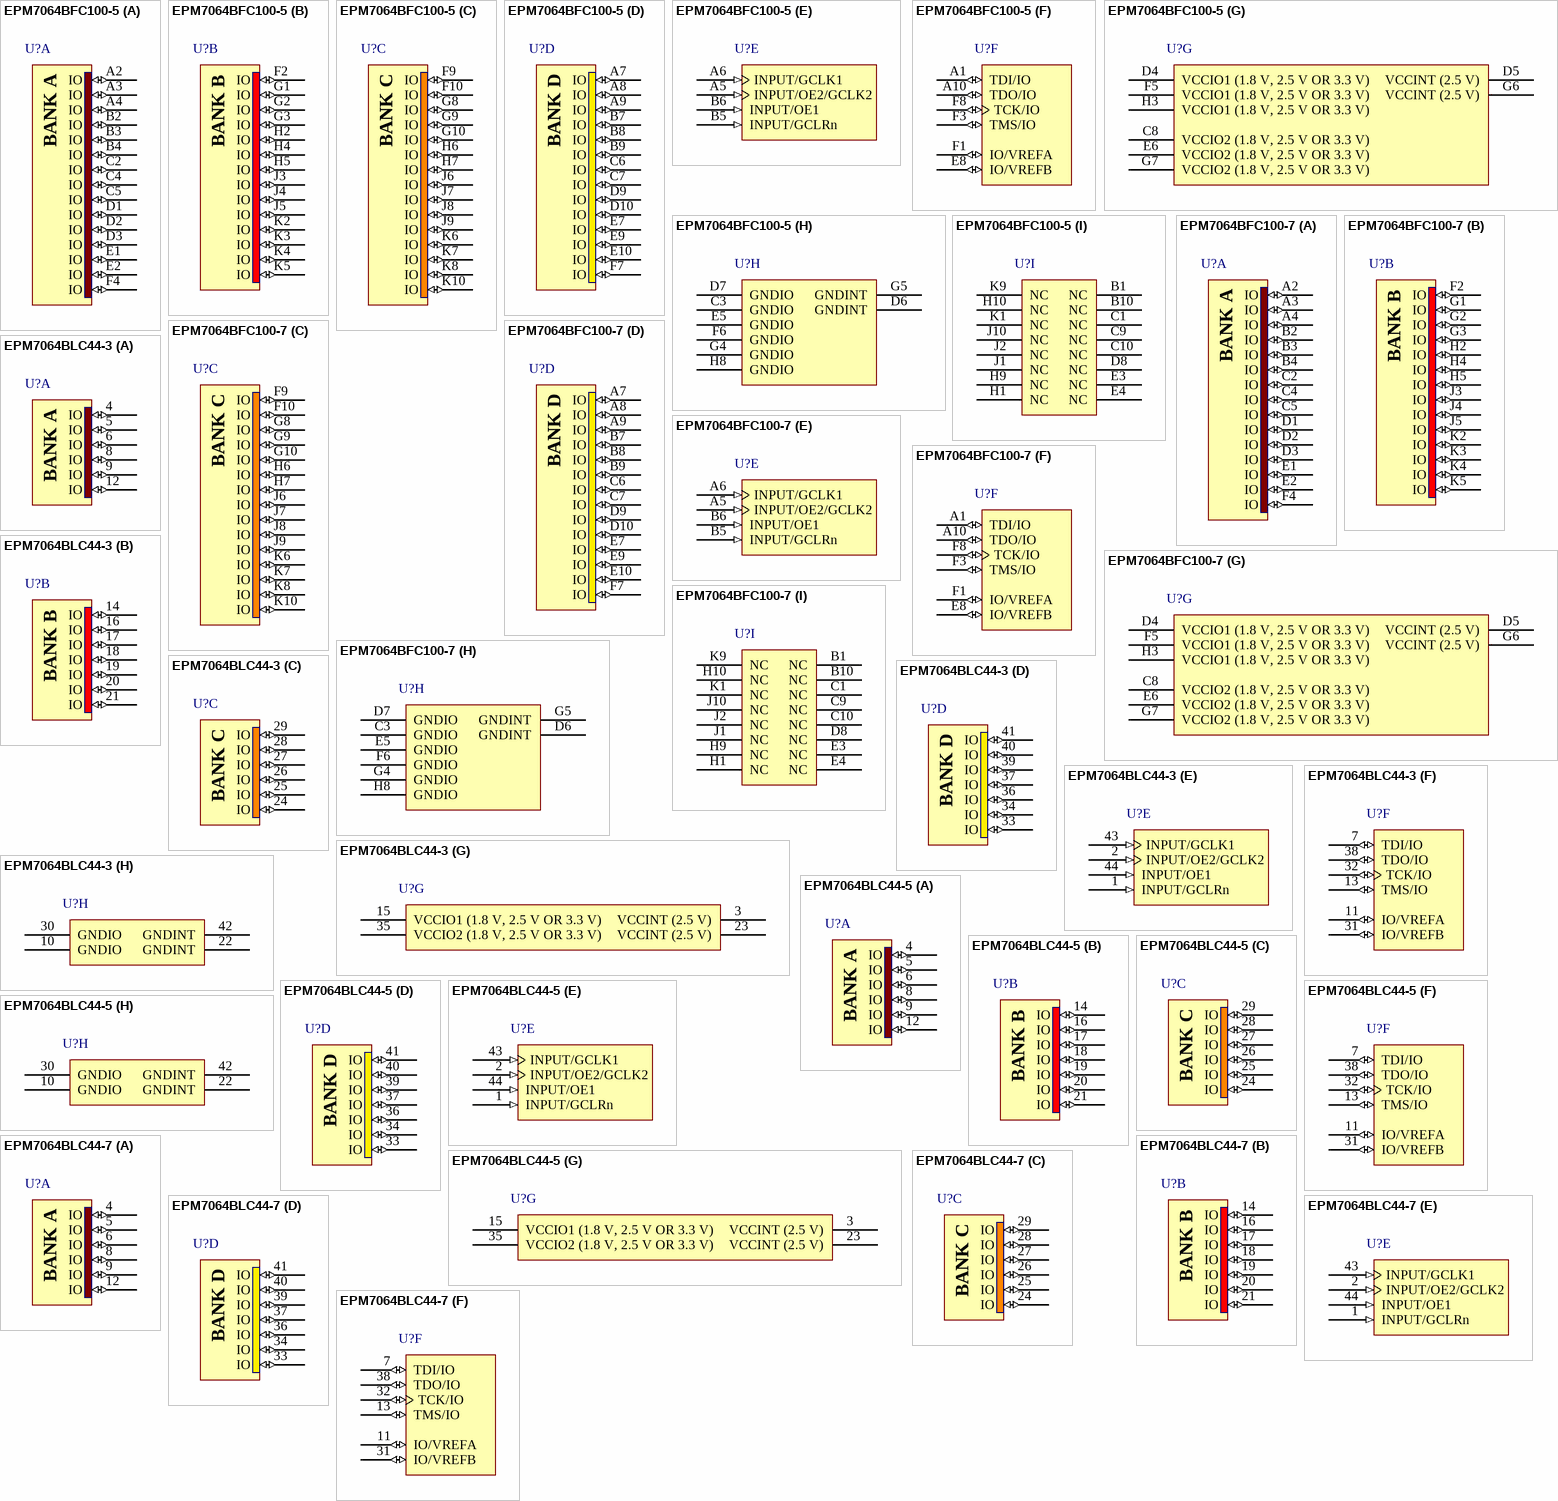
[diagram p3: symbols EPM7064BFC100-5 to EPM7064BLC44-7]

## EPM7064BFC100-5
designator U?
Max 7000B 2.5V CPLD, 64 Macrocells, 100-Pin FBGA, Speed Grade 5, Commercial Grade; Published: 23-Sep-2002; LatestRevisionDate: 13-Apr-2006; LatestRevisionNote: IPC-7351 Footprint Added.; DatasheetVersion: ver3.5, Sep-2005; PackageVersion: ver14.3, Jul-2006; PackageReference: FBGA100; Publisher: Altium Limited; PackageDescription: 100-Ball FineLine Ball Grid Array (FBGA100); Code_JEDEC: MO-192-AAC-1; Code_IPC: BGA100P10X10-100; ComponentLink1Description: Manufacturer Link; ComponentLink1URL: http://www.altera.com/products/devices/max7k/m7k-index.html; ComponentLink2Description: Datasheet; ComponentLink2URL: http://www.altera.com/literature/ds/m7000b.pdf; ComponentLink3Description: Packaging Specification; ComponentLink3URL: http://www.altera.com/literature/ds/dspkg.pdf
footprint FBGA100 (BGA, 100-Leads, Body 11x11mm, Pitch 1mm)
3D model EPM7064B-FBGA100 (100-Ball FineLine Ball Grid Array (FBGA100))
signal-integrity model 7kb (MAX 7000B)
part A pins: A2 IO (io), A3 IO (io), A4 IO (io), B2 IO (io), B3 IO (io), B4 IO (io), C2 IO (io), C4 IO (io), C5 IO (io), D1 IO (io), D2 IO (io), D3 IO (io), E1 IO (io), E2 IO (io), F4 IO (io)
part B pins: F2 IO (io), G1 IO (io), G2 IO (io), G3 IO (io), H2 IO (io), H4 IO (io), H5 IO (io), J3 IO (io), J4 IO (io), J5 IO (io), K2 IO (io), K3 IO (io), K4 IO (io), K5 IO (io)
part C pins: F9 IO (io), F10 IO (io), G8 IO (io), G9 IO (io), G10 IO (io), H6 IO (io), H7 IO (io), J6 IO (io), J7 IO (io), J8 IO (io), J9 IO (io), K6 IO (io), K7 IO (io), K8 IO (io), K10 IO (io)
part D pins: A7 IO (io), A8 IO (io), A9 IO (io), B7 IO (io), B8 IO (io), B9 IO (io), C6 IO (io), C7 IO (io), D9 IO (io), D10 IO (io), E7 IO (io), E9 IO (io), E10 IO (io), F7 IO (io)
part E pins: A5 INPUT/OE2/GCLK2 (in), A6 INPUT/GCLK1 (in), B5 INPUT/GCLRn (in), B6 INPUT/OE1 (in)
part F pins: A1 TDI/IO (io), A10 TDO/IO (io), E8 IO/VREFB (io), F1 IO/VREFA (io), F3 TMS/IO (io), F8 TCK/IO (io)
part G pins: C8 VCCIO2 (1.8 V, 2.5 V OR 3.3 V) (power), D4 VCCIO1 (1.8 V, 2.5 V OR 3.3 V) (power), D5 VCCINT (2.5 V) (power), E6 VCCIO2 (1.8 V, 2.5 V OR 3.3 V) (power), F5 VCCIO1 (1.8 V, 2.5 V OR 3.3 V) (power), G6 VCCINT (2.5 V) (power), G7 VCCIO2 (1.8 V, 2.5 V OR 3.3 V) (power), H3 VCCIO1 (1.8 V, 2.5 V OR 3.3 V) (power)
part H pins: C3 GNDIO (power), D6 GNDINT (power), D7 GNDIO (power), E5 GNDIO (power), F6 GNDIO (power), G4 GNDIO (power), G5 GNDINT (power), H8 GNDIO (power)
part I pins: B1 NC, B10 NC, C1 NC, C9 NC, C10 NC, D8 NC, E3 NC, E4 NC, H1 NC, H9 NC, H10 NC, J1 NC, J2 NC, J10 NC, K1 NC, K9 NC
part A text: BANK A
part B text: BANK B
part C text: BANK C
part D text: BANK D

## EPM7064BFC100-7
designator U?
Max 7000B 2.5V CPLD, 64 Macrocells, 100-Pin FBGA, Speed Grade 7, Commercial Grade; Published: 17-Sep-2003; LatestRevisionDate: 13-Apr-2006; LatestRevisionNote: IPC-7351 Footprint Added.; DatasheetVersion: ver3.5, Sep-2005; PackageVersion: ver14.3, Jul-2006; PackageReference: FBGA100; Publisher: Altium Limited; PackageDescription: 100-Ball FineLine Ball Grid Array (FBGA100); Code_JEDEC: MO-192-AAC-1; Code_IPC: BGA100P10X10-100; ComponentLink1Description: Manufacturer Link; ComponentLink1URL: http://www.altera.com/products/devices/max7k/m7k-index.html; ComponentLink2Description: Datasheet; ComponentLink2URL: http://www.altera.com/literature/ds/m7000b.pdf; ComponentLink3Description: Packaging Specification; ComponentLink3URL: http://www.altera.com/literature/ds/dspkg.pdf
footprint FBGA100 (BGA, 100-Leads, Body 11x11mm, Pitch 1mm)
3D model EPM7064B-FBGA100 (100-Ball FineLine Ball Grid Array (FBGA100))
signal-integrity model 7kb (MAX 7000B)
part A pins: A2 IO (io), A3 IO (io), A4 IO (io), B2 IO (io), B3 IO (io), B4 IO (io), C2 IO (io), C4 IO (io), C5 IO (io), D1 IO (io), D2 IO (io), D3 IO (io), E1 IO (io), E2 IO (io), F4 IO (io)
part B pins: F2 IO (io), G1 IO (io), G2 IO (io), G3 IO (io), H2 IO (io), H4 IO (io), H5 IO (io), J3 IO (io), J4 IO (io), J5 IO (io), K2 IO (io), K3 IO (io), K4 IO (io), K5 IO (io)
part C pins: F9 IO (io), F10 IO (io), G8 IO (io), G9 IO (io), G10 IO (io), H6 IO (io), H7 IO (io), J6 IO (io), J7 IO (io), J8 IO (io), J9 IO (io), K6 IO (io), K7 IO (io), K8 IO (io), K10 IO (io)
part D pins: A7 IO (io), A8 IO (io), A9 IO (io), B7 IO (io), B8 IO (io), B9 IO (io), C6 IO (io), C7 IO (io), D9 IO (io), D10 IO (io), E7 IO (io), E9 IO (io), E10 IO (io), F7 IO (io)
part E pins: A5 INPUT/OE2/GCLK2 (in), A6 INPUT/GCLK1 (in), B5 INPUT/GCLRn (in), B6 INPUT/OE1 (in)
part F pins: A1 TDI/IO (io), A10 TDO/IO (io), E8 IO/VREFB (io), F1 IO/VREFA (io), F3 TMS/IO (io), F8 TCK/IO (io)
part G pins: C8 VCCIO2 (1.8 V, 2.5 V OR 3.3 V) (power), D4 VCCIO1 (1.8 V, 2.5 V OR 3.3 V) (power), D5 VCCINT (2.5 V) (power), E6 VCCIO2 (1.8 V, 2.5 V OR 3.3 V) (power), F5 VCCIO1 (1.8 V, 2.5 V OR 3.3 V) (power), G6 VCCINT (2.5 V) (power), G7 VCCIO2 (1.8 V, 2.5 V OR 3.3 V) (power), H3 VCCIO1 (1.8 V, 2.5 V OR 3.3 V) (power)
part H pins: C3 GNDIO (power), D6 GNDINT (power), D7 GNDIO (power), E5 GNDIO (power), F6 GNDIO (power), G4 GNDIO (power), G5 GNDINT (power), H8 GNDIO (power)
part I pins: B1 NC, B10 NC, C1 NC, C9 NC, C10 NC, D8 NC, E3 NC, E4 NC, H1 NC, H9 NC, H10 NC, J1 NC, J2 NC, J10 NC, K1 NC, K9 NC
part A text: BANK A
part B text: BANK B
part C text: BANK C
part D text: BANK D

## EPM7064BLC44-3
designator U?
Max 7000B 2.5V CPLD, 64 Macrocells, 44-Pin PLCC, Speed Grade 3, Commercial Grade; ComponentAvailability: Discontinued 2004; Published: 23-Sep-2002; LatestRevisionDate: 13-Apr-2006; LatestRevisionNote: IPC-7351 Footprint Added.; DatasheetVersion: ver3.5, Sep-2005; PackageVersion: ver14.3, Jul-2006; PackageReference: PLCC44; Publisher: Altium Limited; PackageDescription: 44-Pin Plastic J-Lead Chip Carrier (PLCC44); Code_JEDEC: MS-018-AC; Code_IPC: PLCC-44; ComponentLink1Description: Manufacturer Link; ComponentLink1URL: http://www.altera.com/products/devices/max7k/m7k-index.html; ComponentLink2Description: Datasheet; ComponentLink2URL: http://www.altera.com/literature/ds/m7000b.pdf; ComponentLink3Description: Packaging Specification; ComponentLink3URL: http://www.altera.com/literature/ds/dspkg.pdf; ComponentLink4Description: Discontinuation Notice; ComponentLink4URL: http://www.altera.com/literature/pcn/pdn0203.pdf
footprint PLCC44_N (Leaded Chip Carrier, 44-Leads, Body 16.6x16.6mm, Pitch 1.27mm, IPC Medium Density)
footprint PLCC44_L (Leaded Chip Carrier, 44-Leads, Body 16.6x16.6mm, Pitch 1.27mm, IPC High Density)
footprint PLCC44_M (Leaded Chip Carrier, 44-Leads, Body 16.6x16.6mm, Pitch 1.27mm, IPC Low Density)
3D model EPM7064B-PLCC44 (44-Pin Plastic J-Lead Chip Carrier (PLCC44))
signal-integrity model 7kb (MAX 7000B)
part A pins: 4 IO (io), 5 IO (io), 6 IO (io), 8 IO (io), 9 IO (io), 12 IO (io)
part B pins: 14 IO (io), 16 IO (io), 17 IO (io), 18 IO (io), 19 IO (io), 20 IO (io), 21 IO (io)
part C pins: 24 IO (io), 25 IO (io), 26 IO (io), 27 IO (io), 28 IO (io), 29 IO (io)
part D pins: 33 IO (io), 34 IO (io), 36 IO (io), 37 IO (io), 39 IO (io), 40 IO (io), 41 IO (io)
part E pins: 1 INPUT/GCLRn (in), 2 INPUT/OE2/GCLK2 (in), 43 INPUT/GCLK1 (in), 44 INPUT/OE1 (in)
part F pins: 7 TDI/IO (io), 11 IO/VREFA (io), 13 TMS/IO (io), 31 IO/VREFB (io), 32 TCK/IO (io), 38 TDO/IO (io)
part G pins: 3 VCCINT (2.5 V) (power), 15 VCCIO1 (1.8 V, 2.5 V OR 3.3 V) (power), 23 VCCINT (2.5 V) (power), 35 VCCIO2 (1.8 V, 2.5 V OR 3.3 V) (power)
part H pins: 10 GNDIO (power), 22 GNDINT (power), 30 GNDIO (power), 42 GNDINT (power)
part A text: BANK A
part B text: BANK B
part C text: BANK C
part D text: BANK D

## EPM7064BLC44-5
designator U?
Max 7000B 2.5V CPLD, 64 Macrocells, 44-Pin PLCC, Speed Grade 5, Commercial Grade; ComponentAvailability: Discontinued 2004; Published: 23-Sep-2002; LatestRevisionDate: 13-Apr-2006; LatestRevisionNote: IPC-7351 Footprint Added.; DatasheetVersion: ver3.5, Sep-2005; PackageVersion: ver14.3, Jul-2006; PackageReference: PLCC44; Publisher: Altium Limited; PackageDescription: 44-Pin Plastic J-Lead Chip Carrier (PLCC44); Code_JEDEC: MS-018-AC; Code_IPC: PLCC-44; ComponentLink1Description: Manufacturer Link; ComponentLink1URL: http://www.altera.com/products/devices/max7k/m7k-index.html; ComponentLink2Description: Datasheet; ComponentLink2URL: http://www.altera.com/literature/ds/m7000b.pdf; ComponentLink3Description: Packaging Specification; ComponentLink3URL: http://www.altera.com/literature/ds/dspkg.pdf; ComponentLink4Description: Discontinuation Notice; ComponentLink4URL: http://www.altera.com/literature/pcn/pdn0203.pdf
footprint PLCC44_N (Leaded Chip Carrier, 44-Leads, Body 16.6x16.6mm, Pitch 1.27mm, IPC Medium Density)
footprint PLCC44_L (Leaded Chip Carrier, 44-Leads, Body 16.6x16.6mm, Pitch 1.27mm, IPC High Density)
footprint PLCC44_M (Leaded Chip Carrier, 44-Leads, Body 16.6x16.6mm, Pitch 1.27mm, IPC Low Density)
3D model EPM7064B-PLCC44 (44-Pin Plastic J-Lead Chip Carrier (PLCC44))
signal-integrity model 7kb (MAX 7000B)
part A pins: 4 IO (io), 5 IO (io), 6 IO (io), 8 IO (io), 9 IO (io), 12 IO (io)
part B pins: 14 IO (io), 16 IO (io), 17 IO (io), 18 IO (io), 19 IO (io), 20 IO (io), 21 IO (io)
part C pins: 24 IO (io), 25 IO (io), 26 IO (io), 27 IO (io), 28 IO (io), 29 IO (io)
part D pins: 33 IO (io), 34 IO (io), 36 IO (io), 37 IO (io), 39 IO (io), 40 IO (io), 41 IO (io)
part E pins: 1 INPUT/GCLRn (in), 2 INPUT/OE2/GCLK2 (in), 43 INPUT/GCLK1 (in), 44 INPUT/OE1 (in)
part F pins: 7 TDI/IO (io), 11 IO/VREFA (io), 13 TMS/IO (io), 31 IO/VREFB (io), 32 TCK/IO (io), 38 TDO/IO (io)
part G pins: 3 VCCINT (2.5 V) (power), 15 VCCIO1 (1.8 V, 2.5 V OR 3.3 V) (power), 23 VCCINT (2.5 V) (power), 35 VCCIO2 (1.8 V, 2.5 V OR 3.3 V) (power)
part H pins: 10 GNDIO (power), 22 GNDINT (power), 30 GNDIO (power), 42 GNDINT (power)
part A text: BANK A
part B text: BANK B
part C text: BANK C
part D text: BANK D

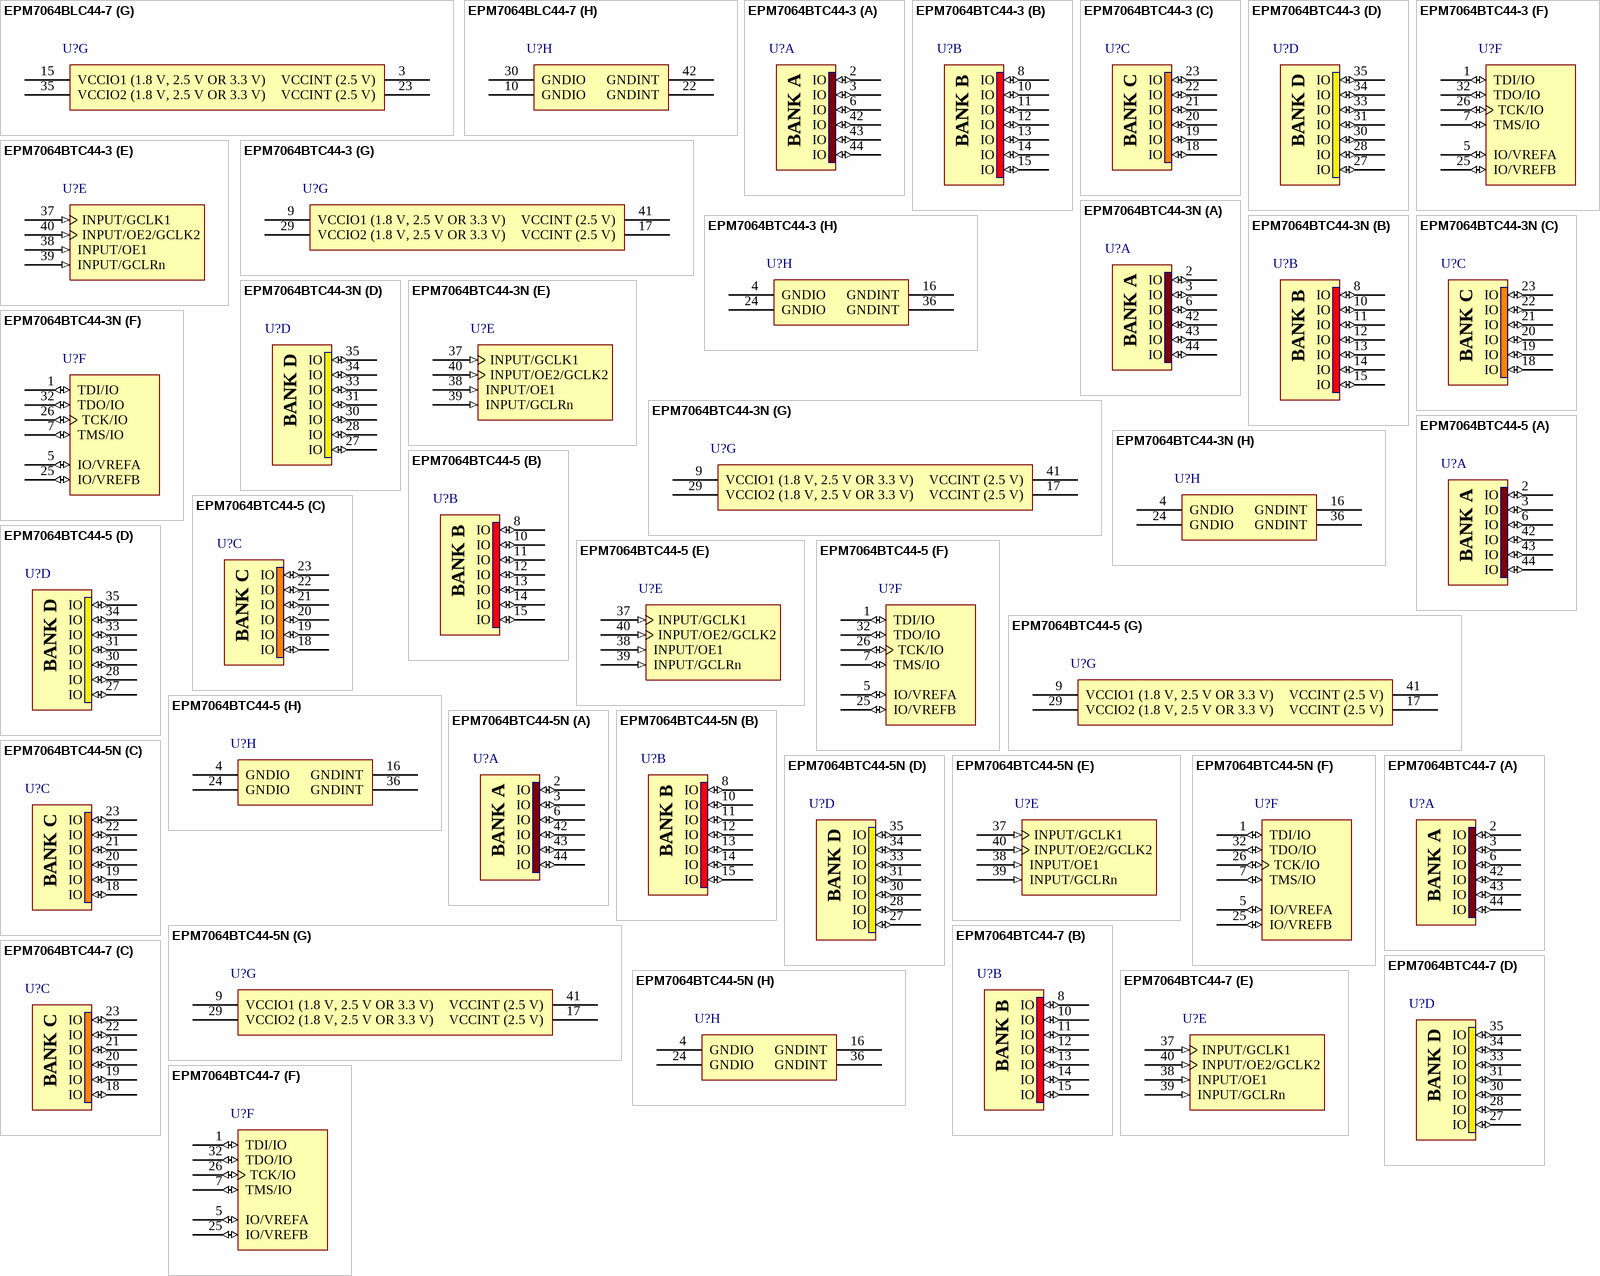
[diagram p4: symbols EPM7064BLC44-7 to EPM7064BTC44-7]

## EPM7064BLC44-7
designator U?
Max 7000B 2.5V CPLD, 64 Macrocells, 44-Pin PLCC, Speed Grade 7, Commercial Grade; ComponentAvailability: Discontinued 2004; Published: 23-Sep-2002; LatestRevisionDate: 13-Apr-2006; LatestRevisionNote: IPC-7351 Footprint Added.; DatasheetVersion: ver3.5, Sep-2005; PackageVersion: ver14.3, Jul-2006; PackageReference: PLCC44; Publisher: Altium Limited; PackageDescription: 44-Pin Plastic J-Lead Chip Carrier (PLCC44); Code_JEDEC: MS-018-AC; Code_IPC: PLCC-44; ComponentLink1Description: Manufacturer Link; ComponentLink1URL: http://www.altera.com/products/devices/max7k/m7k-index.html; ComponentLink2Description: Datasheet; ComponentLink2URL: http://www.altera.com/literature/ds/m7000b.pdf; ComponentLink3Description: Packaging Specification; ComponentLink3URL: http://www.altera.com/literature/ds/dspkg.pdf; ComponentLink4Description: Discontinuation Notice; ComponentLink4URL: http://www.altera.com/literature/pcn/pdn0203.pdf
footprint PLCC44_N (Leaded Chip Carrier, 44-Leads, Body 16.6x16.6mm, Pitch 1.27mm, IPC Medium Density)
footprint PLCC44_L (Leaded Chip Carrier, 44-Leads, Body 16.6x16.6mm, Pitch 1.27mm, IPC High Density)
footprint PLCC44_M (Leaded Chip Carrier, 44-Leads, Body 16.6x16.6mm, Pitch 1.27mm, IPC Low Density)
3D model EPM7064B-PLCC44 (44-Pin Plastic J-Lead Chip Carrier (PLCC44))
signal-integrity model 7kb (MAX 7000B)
part A pins: 4 IO (io), 5 IO (io), 6 IO (io), 8 IO (io), 9 IO (io), 12 IO (io)
part B pins: 14 IO (io), 16 IO (io), 17 IO (io), 18 IO (io), 19 IO (io), 20 IO (io), 21 IO (io)
part C pins: 24 IO (io), 25 IO (io), 26 IO (io), 27 IO (io), 28 IO (io), 29 IO (io)
part D pins: 33 IO (io), 34 IO (io), 36 IO (io), 37 IO (io), 39 IO (io), 40 IO (io), 41 IO (io)
part E pins: 1 INPUT/GCLRn (in), 2 INPUT/OE2/GCLK2 (in), 43 INPUT/GCLK1 (in), 44 INPUT/OE1 (in)
part F pins: 7 TDI/IO (io), 11 IO/VREFA (io), 13 TMS/IO (io), 31 IO/VREFB (io), 32 TCK/IO (io), 38 TDO/IO (io)
part G pins: 3 VCCINT (2.5 V) (power), 15 VCCIO1 (1.8 V, 2.5 V OR 3.3 V) (power), 23 VCCINT (2.5 V) (power), 35 VCCIO2 (1.8 V, 2.5 V OR 3.3 V) (power)
part H pins: 10 GNDIO (power), 22 GNDINT (power), 30 GNDIO (power), 42 GNDINT (power)
part A text: BANK A
part B text: BANK B
part C text: BANK C
part D text: BANK D